# Altium schematic symbol library IntLib.SchLib: 161 symbols (part 1 of 3)
Pins are listed as number, name and electrical type; pins without a type are passive.

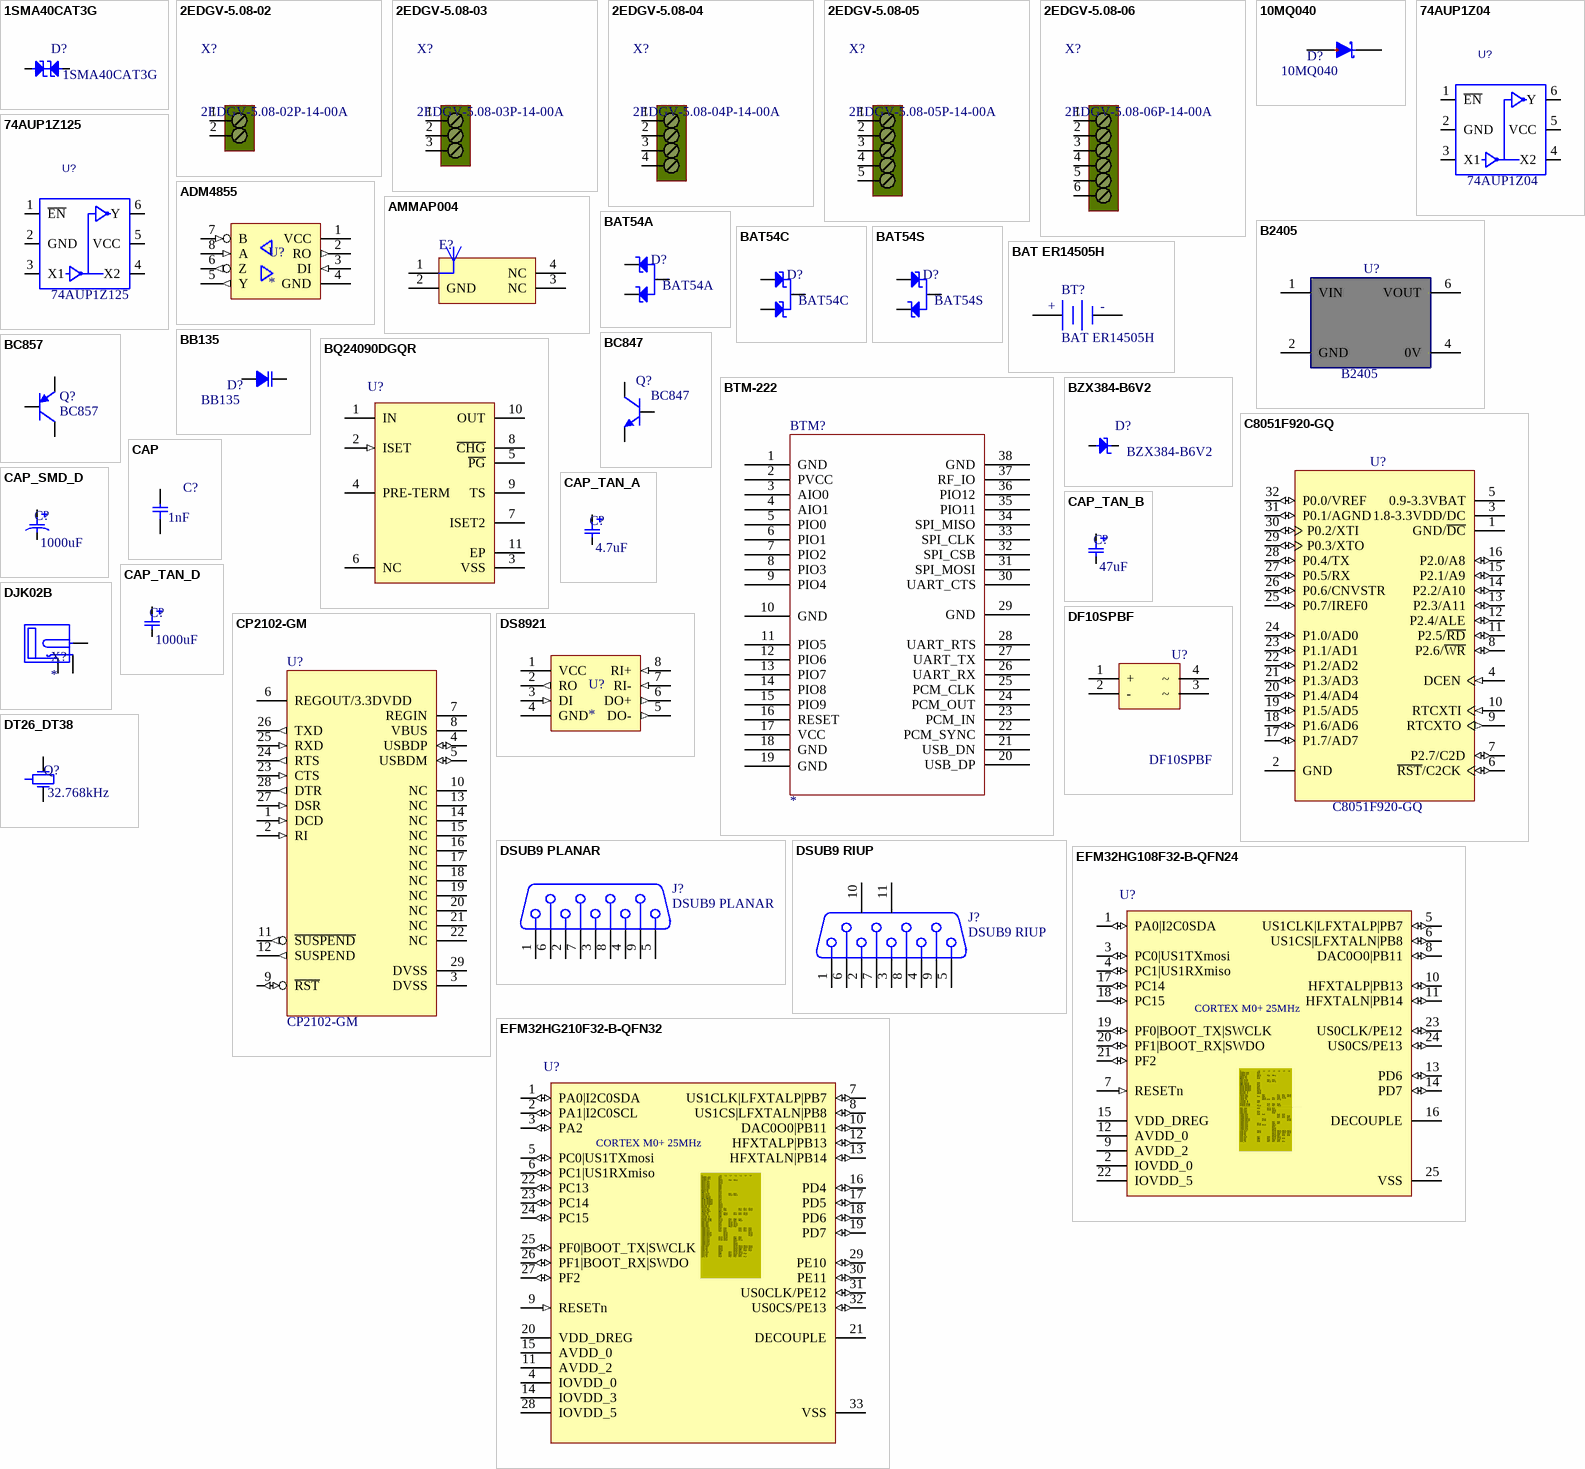
[diagram p0: symbols 1SMA40CAT3G to EFM32HG210F32-B-QFN32]

## 1SMA40CAT3G
designator D?
400 Watt Peak Power Zener  Transient Voltage  Suppressors; Published: 17-Sep-2003; LatestRevisionDate: 12-Dec-2006; LatestRevisionNote: IPC-7351 Footprint Added.; DatasheetVersion: 4-Mar-2002; PackageVersion: May-1999; PackageReference: SOT23; Publisher: Altium Limited; PackageDescription: 3-Pin SOT-23 Package 0.95 mm Pitch, 2.3 mm Lead Span; ComponentLink1Description: Manufacturer Link; ComponentLink1URL: http://www.semiconductors.philips.com/; ComponentLink2Description: Datasheet; ComponentLink2URL: http://www.semiconductors.philips.com/acrobat/datasheets/BAT54_SERIES_4.pdf
footprint SMA2 (Footprint not found)
pins: 1 K, 2 A

## 2EDGV-5.08-02
designator X?, comment 2EDGV-5.08-02P-14-00A
stereo audio 3.5mm
footprint 691311700002 (WR-TBL Series 3117 - 5.00 mm 2 pins Open Vertical PCB Header)
pins: 1, 2

## 2EDGV-5.08-03
designator X?, comment 2EDGV-5.08-03P-14-00A
stereo audio 3.5mm
footprint 691311700003 (WR-TBL Series 3117 - 5.00 mm 3 pins Open Vertical PCB Header)
pins: 1, 2, 3

## 2EDGV-5.08-04
designator X?, comment 2EDGV-5.08-04P-14-00A
stereo audio 3.5mm
footprint 691311700004 (WR-TBL Series 3117 - 5.00 mm 4 pins Open Vertical PCB Header)
pins: 1, 2, 3, 4

## 2EDGV-5.08-05
designator X?, comment 2EDGV-5.08-05P-14-00A
stereo audio 3.5mm
footprint 691311700005 (WR-TBL Series 3117 - 5.00 mm 5 pins Open Vertical PCB Header)
pins: 1, 2, 3, 4, 5

## 2EDGV-5.08-06
designator X?, comment 2EDGV-5.08-06P-14-00A
stereo audio 3.5mm
footprint 691311700006 (WR-TBL Series 3117 - 5.00 mm 6 pins Open Vertical PCB Header)
pins: 1, 2, 3, 4, 5, 6

## 10MQ040
designator D?
Schottky Rectifier; Published: 8-Jun-2000; LatestRevisionDate: 17-Jul-2002; LatestRevisionNote: Re-released for DXP Platform.; DatasheetDocument: Dec-1997; PackageReference: D-64; Publisher: Altium Limited; ComponentLink1Description: Manufacturer Link; ComponentLink1URL: http://www.irf.com/; ComponentLink2Description: Datasheet; ComponentLink2URL: http://www.irf.com/product-info/datasheets/data/10mq040n.pdf
footprint DO214AC (DO-214-AC/SMA; 2 C-Bend Leads; Body 5.3 x 2.6 mm, inc. leads (LxW))
simulation model 10MQ040 (DIODE)
signal-integrity model 10MQ040
pins: 1 A, 2 K

## 74AUP1Z04
designator U?
Value: 74AUP1Z04
footprint SOT363 (SOT-363/SC-88; 6 Leads; Body 2.2 x 2.2 mm, inc. leads (LxW max))
pins: 1 ~{EN}, 2 GND, 3 X1, 4 X2, 5 VCC, 6 Y

## 74AUP1Z125
designator U?
Value: 74AUP1Z125
footprint SOT363 (SOT-363/SC-88; 6 Leads; Body 2.2 x 2.2 mm, inc. leads (LxW max))
pins: 1 ~{EN}, 2 GND, 3 X1, 4 X2, 5 VCC, 6 Y

## ADM4855
designator U?
RS-RS-422 transciver
footprint SO8-150
pins: 1 VCC (power), 2 RO (out), 3 DI (in), 4 GND (power), 5 Y (out), 6 Z (out), 7 B (in), 8 A (in)

## AMMAP004
designator E?
Chip Antenna, GSM850, GSM900, DCS, PCS, UMTS; PCB_Layout: Complies with manufacturer's recommendation.; Published: 14-Mar-2008; DatasheetVersion: Apr-2006; PackageVersion: Apr-2006; PackageReference: ANT-2.45-CHP; Publisher: Altium Limited; PackageDescription: Chip Antenna, LTCC; 2 Leads, Body 6.5 x 2.2 mm (LxW); ComponentLink1Description: Manufacturer Link; ComponentLink1URL: http://www.antennafactor.com/; ComponentLink2Description: Datasheet; ComponentLink2URL: http://www.antennafactor.com/documents/ANT-xxx-CHP-x_Data_Guide.pdf
footprint AMMAP25 (Footprint not found)
pins: 1 FEED, 2 GND, 3 NC, 4 NC

## B2405
designator U?
2W, FIXED INPUT, ISOLATED & UNREGULATED  DUAL/SINGLE OUTPUT DC-DC CONVERTER; Published: 29-Jan-2009; DatasheetVersion: revA, Aug-2007; PackageVersion: revAW, Oct-2008; PackageReference: SOT-23-OT5; Publisher: Altium Limited; PackageDescription: 5-Lead Plastic Small Outline Transistor (OT) [SOT-23]; Code_IPC: SOT23-5; ComponentLink1Description: Manufacturer Link; ComponentLink1URL: http://www.microchip.com; ComponentLink2Description: Datasheet; ComponentLink2URL: http://ww1.microchip.com/downloads/en/DeviceDoc/22070a.pdf; ComponentLink3Description: Packaging Specification; ComponentLink3URL: http://ww1.microchip.com/downloads/en/PackagingSpec/00049AW.pdf
footprint SIP-4-DCDC (SIP-4 DC/DC)
pins: 1 VIN (power), 2 GND (power), 4 0V (power), 6 VOUT (power)

## BAT54A
designator D?
Schottky Barrier Double Diode; Published: 17-Sep-2003; LatestRevisionDate: 12-Dec-2006; LatestRevisionNote: IPC-7351 Footprint Added.; DatasheetVersion: 4-Mar-2002; PackageVersion: May-1999; PackageReference: SOT23; Publisher: Altium Limited; PackageDescription: 3-Pin SOT-23 Package 0.95 mm Pitch, 2.3 mm Lead Span; ComponentLink1Description: Manufacturer Link; ComponentLink1URL: http://www.semiconductors.philips.com/; ComponentLink2Description: Datasheet; ComponentLink2URL: http://www.semiconductors.philips.com/acrobat/datasheets/BAT54_SERIES_4.pdf
footprint SOT23-1 (SOT23, 3-Leads, Body 2.9x1.3mm, Pitch 0.95mm, Lead Span 2.5mm)
pins: 1 A1, 2 A2, 3 K

## BAT54C
designator D?
Schottky Barrier Double Diode; Published: 17-Sep-2003; LatestRevisionDate: 12-Dec-2006; LatestRevisionNote: IPC-7351 Footprint Added.; DatasheetVersion: 4-Mar-2002; PackageVersion: May-1999; PackageReference: SOT23; Publisher: Altium Limited; PackageDescription: 3-Pin SOT-23 Package 0.95 mm Pitch, 2.3 mm Lead Span; ComponentLink1Description: Manufacturer Link; ComponentLink1URL: http://www.semiconductors.philips.com/; ComponentLink2Description: Datasheet; ComponentLink2URL: http://www.semiconductors.philips.com/acrobat/datasheets/BAT54_SERIES_4.pdf
footprint SOT23-1 (SOT23, 3-Leads, Body 2.9x1.3mm, Pitch 0.95mm, Lead Span 2.5mm)
pins: 1 A1, 2 A2, 3 K

## BAT54S
designator D?
Schottky Barrier Double Diode; Published: 17-Sep-2003; LatestRevisionDate: 12-Dec-2006; LatestRevisionNote: IPC-7351 Footprint Added.; DatasheetVersion: 4-Mar-2002; PackageVersion: May-1999; PackageReference: SOT23; Publisher: Altium Limited; PackageDescription: 3-Pin SOT-23 Package 0.95 mm Pitch, 2.3 mm Lead Span; ComponentLink1Description: Manufacturer Link; ComponentLink1URL: http://www.semiconductors.philips.com/; ComponentLink2Description: Datasheet; ComponentLink2URL: http://www.semiconductors.philips.com/acrobat/datasheets/BAT54_SERIES_4.pdf
footprint SOT23-1 (SOT23, 3-Leads, Body 2.9x1.3mm, Pitch 0.95mm, Lead Span 2.5mm)
pins: 1 A1, 2 A2, 3 K

## BAT ER14505H
designator BT?
Multicell Battery; Published: 24-Mar-1999; LatestRevisionDate: 17-Jul-2002; LatestRevisionNote: Re-released for DXP Platform.; PackageReference: BAT-2; Publisher: Altium Limited
footprint ER14505H
pins: 1 +, 2 -

## BB135
designator D?
UHF variable capacitance diode; Published: 8-Jun-2000; LatestRevisionDate: 17-Jul-2002; LatestRevisionNote: Re-released for DXP Platform.; DatasheetDocument: Dec-1997; PackageReference: D-64; Publisher: Altium Limited; ComponentLink1Description: Manufacturer Link; ComponentLink1URL: http://www.irf.com/; ComponentLink2Description: Datasheet; ComponentLink2URL: http://www.irf.com/product-info/datasheets/data/10mq040n.pdf
footprint SOD323 (SOD-323; 2 Leads; Body 1.8 x 1.35 mm, (LxW))
pins: 1 K, 2 A

## BC847
designator Q?
NPN General-purpose Transistor; Published: 17-Sep-2003; LatestRevisionDate: 12-Dec-2006; LatestRevisionNote: IPC-7351 Footprint Added.; DatasheetVersion: 4-Feb-2002; PackageVersion: May-1999; PackageReference: SOT23; Publisher: Altium Limited; PackageDescription: 3-Pin SOT-23 Package 0.95 mm Pitch, 2.3 mm Lead Span; ComponentLink1Description: Manufacturer Link; ComponentLink1URL: http://www.semiconductors.philips.com/; ComponentLink2Description: Datasheet; ComponentLink2URL: http://www.semiconductors.philips.com/acrobat/datasheets/BC846_BC847_BC848_5.pdf
footprint SOT23-1 (SOT23, 3-Leads, Body 2.9x1.3mm, Pitch 0.95mm, Lead Span 2.5mm)
pins: 1 B, 2 E, 3 C

## BC857
designator Q?
PNP General-purpose Transistor; Published: 17-Sep-2003; LatestRevisionDate: 12-Dec-2006; LatestRevisionNote: IPC-7351 Footprint Added.; DatasheetVersion: 8-Apr-1999; PackageVersion: May-1999; PackageReference: SOT23; Publisher: Altium Limited; PackageDescription: 3-Pin SOT-23 Package 0.95 mm Pitch, 2.3 mm Lead Span; ComponentLink1Description: Manufacturer Link; ComponentLink1URL: http://www.semiconductors.philips.com/; ComponentLink2Description: Datasheet; ComponentLink2URL: http://www.semiconductors.philips.com/acrobat/datasheets/BC807_BC807W_BC327_5.pdf
footprint SOT23-1 (SOT23, 3-Leads, Body 2.9x1.3mm, Pitch 0.95mm, Lead Span 2.5mm)
pins: 1 B, 2 E, 3 C

## BQ24090DGQR
designator U?
1 A, Single Input, Single Cell Li-Ion Battery Charger with 10 K ohm NTC, 4.5 V, -40 to 150 degC, 10-pin MSOP-PowerPAD (DGQ), Green (RoHS & no Sb/Br); PartNumber: BQ24090DGQR; Manufacturer: Texas Instruments; Lead Acid: N; SubFamily: Battery Charge Management; Vin(Min)(V): 4.5; DatasheetVersion: SLUS968C; PackageVersion: revF, Nov-2011; PackageReference: DGQ10-1675X1445TP; PackageDescription: 10-Pin PowerPAD Plastic Small Outline 0.5 mm Pitch, Exposed Pad; Supplier 1: Digi-Key; Supplier Part Number 1: BQ24090DGQR-ND; Supplier 2: Newark; Supplier Part Number 2: 68R5440; Supplier 3: Mouser; Supplier Part Number 3: 595-BQ24090DGQR; Eco-Plan: Green (RoHS & no Sb/Br); Li-Ion: N; Li-Polymer: N; NiCd: N; NiMH: N; Over Voltage Protection: N; Mounting Technology: Surface Mount; Code_JEDEC: MO-187-BA-T; ComponentLink1Description: Datasheet; ComponentLink1URL: http://www.ti.com/general/docs/lit/getliterature.tsp?genericPartNumber=BQ24090&fileType=pdf
footprint DGQ10 (TSSOP, 10-Leads, Body 3x3mm, Pitch 0.5mm, Thermal Pad 1.88x1.57mm, IPC Low Density)
pins: 1 IN (power) "Input power, connected to external DC supply (AC adapter or USB port). Expected range of bypass capacitors 1uF to 10uF, connect from IN to VSS.", 2 ISET (in) "Programs the Fast-charge current setting. External resistor from ISET to VSS defines fast charge current value. Range is 10.8k (50mA) to 675 ohm (800mA).", 3 VSS (power) "Ground terminal", 4 PRE-TERM "Programs the Current Termination Threshold (5 to 50% of Iout which is set by ISET) and Sets the Pre- Charge Current to twice the Termination Current Level. Expected range of programming resistor is 1k to 10kohm (2k: Ipgm/10 (See Datasheet)", 5 ~{PG} (hiz) "Low (FET on) indicates the input voltage is above UVLO and the OUT (battery) voltage.", 6 NC "Do not make a connection to this pin (for internal use) - Do not route through this pin", 7 ISET2 "Programming the Input/Output Current Limit for the USB or Adaptor source: High = 500mAmax, Low = ISET, FLOAT = 100mA max.", 8 ~{CHG} (hiz) "Low (FET on) indicates charging and Open Drain (FET off) indicates no Charging or Charge complete.", 9 TS "Temperature sense pin connected to bq24090/2 -10k at 25degreesC NTC thermistor & bq24091/3 -100k at 25degreesC NTC thermistor, in the battery pack. Floating TS Pin or pulling High puts part in TTDM “Charger?Mode and disable (See Datasheet)", 10 OUT (power) "Battery Connection. System Load may be connected. Average load should not be excessive, allowing battery to charge within the 10 hour safety timer window. Expected range of bypass capacitors 1uF to 10uF.", 11 EP (power) "There is an internal electrical connection between the exposed thermal pad and the VSS pin of the device. The thermal pad must be connected to the same potential as the VSS pin on the printed circuit board. Do not use the (See Datasheet)"

## BTM-222
designator BTM?
footprint BTM-222
pins: 1 GND, 2 PVCC, 3 AIO0, 4 AIO1, 5 PIO0, 6 PIO1, 7 PIO2, 8 PIO3, 9 PIO4, 10 GND, 11 PIO5, 12 PIO6, 13 PIO7, 14 PIO8, 15 PIO9, 16 RESET, 17 VCC, 18 GND, 19 GND, 20 USB_DP, 21 USB_DN, 22 PCM_SYNC, 23 PCM_IN, 24 PCM_OUT, 25 PCM_CLK, 26 UART_RX, 27 UART_TX, 28 UART_RTS, 29 GND, 30 UART_CTS, 31 SPI_MOSI, 32 SPI_CSB, 33 SPI_CLK, 34 SPI_MISO, 35 PIO11, 36 PIO12, 37 RF_IO, 38 GND

## BZX384-B6V2
designator D?
Zener 6.2v; Published: 17-Sep-2003; LatestRevisionDate: 12-Dec-2006; LatestRevisionNote: IPC-7351 Footprint Added.; DatasheetVersion: 4-Mar-2002; PackageVersion: May-1999; PackageReference: SOT23; Publisher: Altium Limited; PackageDescription: 3-Pin SOT-23 Package 0.95 mm Pitch, 2.3 mm Lead Span; ComponentLink1Description: Manufacturer Link; ComponentLink1URL: http://www.semiconductors.philips.com/; ComponentLink2Description: Datasheet; ComponentLink2URL: http://www.semiconductors.philips.com/acrobat/datasheets/BAT54_SERIES_4.pdf
footprint SOD323
pins: 1 K, 2 A

## C8051F920-GQ
designator U?
8051 Microcontroller, 25MIPS, 32KiB Flash, 256Byte RAM + 4KiB XRAM, 24.5MHz +/-2% and 20MHz +/-10% and 40-10kHz Internal Oscillator, 4-16bit Timer, 23CH 200ksps 10bit ADC, UART, I2C, 2 SPI, CRC, RTC, PCA, 2 Comparator, LDO, DCC, 24GPIO.; Manufacture: Silicon Laboratories; Compliant: RoHS; CompliantInformationSource: Silicon Laboratries; PackageDocument: 2008-09; TempertureRange: Industrial (-40 to +85Cel); ComponentLink1Description: Manufacture Link; ComponentLink1URL: http://www.silabs.com/; ComponentLink2Description: Datasheet; ComponentLink2URL: https://www.silabs.com/Support Documents/TechnicalDocs/C8051F93x-92x.pdf; DatasheetDocument: Rev. 0.4, 2008-09; PackageReference: LQFP-32; Published: 2008-04-18; Publisher: A and A System Co., Ltd.; DigiKeyPartNumber: 336-1469-ND
footprint LQFP32 (QFP, 32-Leads, Body 7x7mm, Pitch 0.8mm, IPC High Density)
pins: 1 GND/~{DC} (power), 2 GND (power), 3 1.8-3.3VDD/DC (power), 4 DCEN (in), 5 0.9-3.3VBAT (power), 6 ~{RST}/C2CK (io), 7 P2.7/C2D (io), 8 P2.6/~{WR} (io), 9 RTCXTO (out), 10 RTCXTI (in) "Port 1.1. See Port I/O Section for a complete description. External Clock Output. This pin is the excitation driver for an external crystal or resonator, or an external clock input for CMOS, capacitor, or RC oscillator configurations. See Oscillator Sect", 11 P2.5/~{RD} (io), 12 P2.4/ALE (io), 13 P2.3/A11 (io), 14 P2.2/A10 (io), 15 P2.1/A9 (io), 16 P2.0/A8 (io), 17 P1.7/AD7 (io), 18 P1.6/AD6 (io), 19 P1.5/AD5 (io), 20 P1.4/AD4 (io), 21 P1.3/AD3 (io), 22 P1.2/AD2 (io), 23 P1.1/AD1 (io), 24 P1.0/AD0 (io), 25 P0.7/IREF0 (io), 26 P0.6/CNVSTR (io), 27 P0.5/RX (io), 28 P0.4/TX (io), 29 P0.3/XTO (io), 30 P0.2/XTI (io), 31 P0.1/AGND (io), 32 P0.0/VREF (io)

## CAP
designator C?  value 1nF  (hidden comment: CAP)
Capacitor; Manufacturer: Generic Components; Class I: Passive; Published: 8-Jun-2000; Revision: July-2002: Re-released for DXP Platform.; Publisher: Altium Limited; Class II: Capacitor; Type: *
footprint R2012_CAP (SMD CAP-0805)
footprint R1608_CAP (SMD CAP-0603)
footprint R1005_CAP (SMD CAP-0402)
pins: 1, 2
2 alternate drawings of the same symbol

## CAP_SMD_D
designator C?, comment value 1000uF  (hidden comment: CAP SMD Size D)
Revision: July-2002: Re-released for DXP Platform.; Type: *
footprint CAP_SMD_D
pins: 1, 2
2 alternate drawings of the same symbol

## CAP_TAN_A
designator C?, comment value 4.7uF  (hidden comment: CAP TAN Size A)
Revision: July-2002: Re-released for DXP Platform.; Type: *
footprint CAP_TAN_D
footprint CAP_TAN_A (Chip Capacitor, Body 3.2x2.5mm, IPC High Density)
footprint CAP_TAN_B (Chip Capacitor, Body 3.2x2.5mm, IPC High Density)
pins: 1, 2
2 alternate drawings of the same symbol

## CAP_TAN_B
designator C?, comment value 47uF  (hidden comment: CAP TAN Size B)
CAP TAN Size C; Revision: July-2002: Re-released for DXP Platform.; Type: *
footprint CAP_TAN_D
footprint CAP_TAN_A (Chip Capacitor, Body 3.2x2.5mm, IPC High Density)
footprint CAP_TAN_B (Chip Capacitor, Body 3.2x2.5mm, IPC High Density)
pins: 1, 2
2 alternate drawings of the same symbol

## CAP_TAN_D
designator C?, comment value 1000uF  (hidden comment: CAP TAN Size D)
Revision: July-2002: Re-released for DXP Platform.; Type: *
footprint CAP_TAN_D
footprint CAP_TAN_A (Chip Capacitor, Body 3.2x2.5mm, IPC High Density)
footprint CAP_TAN_B (Chip Capacitor, Body 3.2x2.5mm, IPC High Density)
pins: 1, 2
2 alternate drawings of the same symbol

## CP2102-GM
designator U?
Single Chip USB to UART Bridge, USB 2.0, 1024Bytes EEPROM.; Manufacture: Silicon Laboratories; Compliant: RoHS; CompliantInformationSource: Silicon Laboratries; PackageDocument: 2005-09; TempertureRange: Industrial (-40 to +85Cel); ComponentLink1Description: Manufacture Link; ComponentLink1URL: http://www.silabs.com/; ComponentLink2Description: Datasheet; ComponentLink2URL: https://www.silabs.com/Support Documents/TechnicalDocs/CP2102.pdf; DatasheetDocument: Rev. 1.1, 2005-09; PackageReference: QFN-28; Published: 2007-08-06; Publisher: A and A System Co., Ltd.; DigiKeyPartNumber: 336-1160-ND
footprint QFN28 (Footprint not found)
pins: 1 DCD (in) "Data Carrier Detect control input (active low)", 2 RI (in) "Ring Indicator control input (active low)", 3 DVSS (power), 4 USBDP (io) "USB Dataline Positive.", 5 USBDM (io) "USB Data Line Negative", 6 REGOUT/3.3DVDD (power) "3.0-3.6?V Power Supply Voltage Input. 3.3?V Voltage Regulator Output. See Section 9.", 7 REGIN (power) "5?V Regulator Input. This pin is the input to the on-chip voltage regulator.", 8 VBUS (power) "VBUS Sense Input. This pin should be connected to the VBUS signal of a USB network. A 5?V signal on this pin indicates a USB network connection.", 9 ~{RST} (io) "Device Reset. Open-drain output of internal POR or VDD monitor. An external source can initiate a system reset by driving this pin low for at least 15us.", 10 NC "These pins should be left unconnected or tied to VDD.", 11 ~{SUSPEND} (out) "This pin is driven low when the CP2101 enters the USB suspend state.", 12 SUSPEND (out) "This pin is driven high when the CP2101 enters the USB suspend state.", 13 NC "These pins should be left unconnected or tied to VDD.", 14 NC "These pins should be left unconnected or tied to VDD.", 15 NC "These pins should be left unconnected or tied to VDD.", 16 NC "These pins should be left unconnected or tied to VDD.", 17 NC "These pins should be left unconnected or tied to VDD.", 18 NC "These pins should be left unconnected or tied to VDD.", 19 NC "These pins should be left unconnected or tied to VDD.", 20 NC "These pins should be left unconnected or tied to VDD.", 21 NC "These pins should be left unconnected or tied to VDD.", 22 NC "These pins should be left unconnected or tied to VDD.", 23 CTS (in) "Clear To Send control input (active low)", 24 RTS (out) "Ready to Send control output (active low)", 25 RXD (in) "Asynchronous data input (UART Receive)", 26 TXD (out) "Asynchronous data output (UART Transmit)", 27 DSR (in) "Data Set Ready control input (active low)", 28 DTR (out) "Data Terminal Ready control output (active low)", 29 DVSS (power)

## DF10SPBF
designator U?
Ampere Bridge Rectifiers 1500 mA; Published: 29-Jan-2009; DatasheetVersion: revA, Aug-2007; PackageVersion: revAW, Oct-2008; PackageReference: SOT-23-OT5; Publisher: Altium Limited; PackageDescription: 5-Lead Plastic Small Outline Transistor (OT) [SOT-23]; Code_IPC: SOT23-5; ComponentLink1Description: Manufacturer Link; ComponentLink1URL: http://www.microchip.com; ComponentLink2Description: Datasheet; ComponentLink2URL: http://ww1.microchip.com/downloads/en/DeviceDoc/22070a.pdf; ComponentLink3Description: Packaging Specification; ComponentLink3URL: http://ww1.microchip.com/downloads/en/PackagingSpec/00049AW.pdf
footprint D-71 (D-71 / DB-1S Diode Bridge)
pins: 1 + (power), 2 - (power), 3 ~ (power), 4 ~ (power)

## DJK02B
designator X?
DJK02B
footprint DJK-02
pins: 1 (power), 2 (power), 3 (power)

## DS8921
designator U?
RS-422 transciver
footprint SO8-150
pins: 1 VCC (power), 2 RO (out), 3 DI (in), 4 GND (power), 5 DO- (out), 6 DO+ (out), 7 RI- (in), 8 RI+ (in)

## DSUB9 PLANAR
designator J?
Receptacle Assembly, 9 Position, Right Angle; PackageDocument: O; Positions: 9; Published: 15-Jun-2001; LatestRevisionDate: 17-Jul-2002; LatestRevisionNote: Re-released for DXP Platform.; DatasheetDocument: 1-Sep-1999; PackageReference: 788750; Publisher: Altium Limited; Orientation: Right Angle; Gender: Receptacle
footprint DSUB9_FE_PLANAR (Connector; D Subminiature; 9 Position; Right Angle; Pitch 1.385 mm)
signal-integrity model Connector
footprint DSUB9_MA_PLANAR (Connector; D Subminiature; 9 Position; Right Angle; Pitch 1.385 mm)
pins: 1, 2, 3, 4, 5, 6, 7, 8, 9

## DSUB9 RIUP
designator J?
Receptacle Assembly, 9 Position, Right Angle; PackageDocument: O; Positions: 9; Published: 15-Jun-2001; LatestRevisionDate: 17-Jul-2002; LatestRevisionNote: Re-released for DXP Platform.; DatasheetDocument: 1-Sep-1999; PackageReference: 788750; Publisher: Altium Limited; Orientation: Right Angle; Gender: Receptacle
signal-integrity model Connector
footprint DSUB9_FE_RI (Connector; D Subminiature; 9 Position; Right Angle; Pitch 1.385 mm)
footprint DSUB9_MA_RI (Connector; D Subminiature; 9 Position; Right Angle; Pitch 1.385 mm)
footprint DSUB9_FE_UP (Connector; D Subminiature; 9 Position; Right Angle; Pitch 1.385 mm)
footprint DSUB9_MA_UP (Connector; D Subminiature; 9 Position; Right Angle; Pitch 1.385 mm)
pins: 1, 2, 3, 4, 5, 6, 7, 8, 9, 10, 11

## DT26_DT38
designator Q?, comment value 32.768kHz  (hidden comment: DT26 / DT38)
Crystal Oscillator 32768; Manufacturer: Generic Components; Published: 8-Jun-2000; Revision: July-2002: Re-released for DXP Platform.; Publisher: Altium Limited; Class I: Oscillator; Class II: Crystal Oscillator
footprint DT26_DT38
pins: 1 OSC1, 2 OSC2, GND

## EFM32HG108F32-B-QFN24
designator U?
EFM32 Happy Gecko, M0 ARM Cortex CPU, 32 KB Flash, 4 KB RAM, 1.98 - 3.8 V Supply, 25 MHz Max Speed, -40 to 85 degC, 24-Pin QFN, RoHS Compliant; Generic Part Number: EFM32LG280; PartNumber: EFM32LG280F64-QFP100; ARM Cortex CPU: M3; Flash (KB): 64; GPIO: 86; LESENSE: Y; Max Speed (MHz): 48; OPAMPS: 3; RAM (KB): 32; Supply Voltage (V): 1.85 - 3.8; DatasheetVersion: Rev 1.00; PackageVersion: Rev. 98A0100QP043_03MAY2007; PackageReference: LQFP100; PackageDescription: 100-Pin Low rofile Quad Flat Package, Body 14 x 14 mm, Pitch 0.5 mm; Supplier 1: Digi-Key; Supplier Part Number 1: EFM32LG280F64-ND; Supplier 2: Mouser; Supplier Part Number 2: 904-EFM32LG280F64; Subcategory: EFM32 Leopard Gecko; Mounting Technology: Surface Mount; ComponentLink1Description: Manufacturer URL; ComponentLink1URL: http://www.energymicro.com/; ComponentLink2Description: Datasheet; ComponentLink2URL: http://cdn.energymicro.com/dl/devices/pdf/d0107_efm32lg280_datasheet.pdf; ComponentLink3Description: Package Specification; ComponentLink3URL: http://cdn.energymicro.com/dl/devices/pdf/d0006_efm32g280_datasheet.pdf
footprint QFN24 (QFN, 24-Leads, Body 5x5mm, Pitch 0.65mm, Thermal Pad 3.6 x 3.6mm, IPC Low Density)
pins: 1 PA0|I2C0SDA (io) "EBI_AD09#0/1/2, TIM0_CC0#0/1/4, LEU0_RX#4, I2C0_SDA#0, PRS_CH0#0, GPIO_EM4WU0", 2 IOVDD_0 (power) "Digital IO power supply 0.", 3 PC0|US1TXmosi (io) "DAC0_OUT0ALT#0/OPAMP_OUT0ALT, ACMP0_CH0, EBI_A23#0/1/2, TIM0_CC1#4, PCNT0_S0IN#2, US0_TX#5, US1_TX#0, I2C0_SDA#4, LES_CH0#0, PRS_CH2#0", 4 PC1|US1RXmiso (io) "DAC0_OUT0ALT#1/OPAMP_OUT0ALT, ACMP0_CH1, EBI_A24#0/1/2, TIM0_CC2#4, PCNT0_S1IN#2, US0_RX#5, US1_RX#0, I2C0_SCL#4, LES_CH1#0, PRS_CH3#0", 5 US1CLK|LFXTALP|PB7 (io) "LFXTAL_P, TIM1_CC0#3, US0_TX#4, US1_CLK#0", 6 US1CS|LFXTALN|PB8 (io) "LFXTAL_N, TIM1_CC1#3, US0_RX#4, US1_CS#0", 7 RESETn (in) "Reset input.Active low, with internal pull-up.", 8 DAC0O0|PB11 (io) "DAC0_OUT0#0/OPAMP_OUT0, TIM1_CC2#3, LETIM0_OUT0#1, I2C1_SDA#1", 9 AVDD_2 (power) "Analog power supply 1 .", 10 HFXTALP|PB13 (io) "HFXTAL_P, US0_CLK#4/5, LEU0_TX#1", 11 HFXTALN|PB14 (io) "HFXTAL_N, US0_CS#4/5, LEU0_RX#1", 12 AVDD_0 (power) "Analog power supply 0.", 13 PD6 (io) "ADC0_CH6, DAC0_P1#0/OPAMP_P1, TIM1_CC0#4, LETIM0_OUT0#0, PCNT0_S0IN#3, US1_RX#2, I2C0_SDA#1, LES_ALTEX0#0, ACMP0_O#2, ETM_TD0#0", 14 PD7 (io) "ADC0_CH7, DAC0_N1#0/OPAMP_N1, TIM1_CC1#4, LETIM0_OUT1#0, PCNT0_S1IN#3, US1_TX#2, I2C0_SCL#1, CMU_CLK0#2, LES_ALTEX1#0, ACMP1_O#2, ETM_TCLK#0", 15 VDD_DREG (power) "Power supply for on-chip voltage regulator.", 16 DECOUPLE "Decouple output for on-chip voltage regulator. An external capacitance of size CDECOUPLE is required at this pin", 17 PC14 (io) "DAC0_OUT1ALT#2/OPAMP_OUT1ALT, ACMP1_CH6, TIM0_CDTI1#1/3, TIM1_CC1#0, PCNT0_S1IN#0, US0_CS#3, U0_TX#3, LES_CH14#0", 18 PC15 (io) "DAC0_OUT1ALT#3/OPAMP_OUT1ALT, ACMP1_CH7, TIM0_CDTI2#1/3, TIM1_CC2#0, US0_CLK#3, U0_RX#3, LES_CH15#0, DBG_SWO#1", 19 PF0|BOOT_TX|SWCLK (io) "TIM0_CC0#5, LETIM0_OUT0#2, US1_CLK#2, LEU0_TX#3, I2C0_SDA#5, DBG_SWCLK#0/1/2/3", 20 PF1|BOOT_RX|SWDO (io) "TIM0_CC1#5, LETIM0_OUT1#2, US1_CS#2, LEU0_RX#3, I2C0_SCL#5, DBG_SWDIO#0/1/2/3, GPIO_EM4WU3", 21 PF2 (io) "EBI_ARDY#0/1/2, TIM0_CC2#5, LEU0_TX#4, ACMP1_O#0, DBG_SWO#0, GPIO_EM4WU4", 22 IOVDD_5 (power) "Digital IO power supply 5.", 23 US0CLK/PE12 (io) "EBI_AD04#0/1/2, TIM1_CC2#1, US0_RX#3, US0_CLK#0, I2C0_SDA#6, CMU_CLK1#2, LES_ALTEX6#0", 24 US0CS/PE13 (io) "EBI_AD05#0/1/2, US0_TX#3, US0_CS#0, I2C0_SCL#6, LES_ALTEX7#0, ACMP0_O#0, GPIO_EM4WU5", 25 VSS (power) "Ground"
text: CORTEX M0+ 25MHz; #                 L0   L1   L2   L3   L4   L5   L6 / ACMP0_CH0        PC0 / ACMP0_CH1        PC1 / ACMP0_O          PE13      PD6  PB11 / BOOT_RX          PF1 / BOOT_TX          PF0 / CMU_CLK0                   PD7  PF2 / CMU_CLK1                   PE12 PB11 / DBG_SWCLK        PF0 / DBG_SWDIO        PF1 / GPIO_EM4WU0      PA0 / GPIO_EM4WU3      PF1 / GPIO_EM4WU4      PF2 / GPIO_EM4WU5      PE13 / HFXTAL_N         PB14 / HFXTAL_P         PB13 / I2C0_SCL              PD7            PC1  PF1  PE13 / I2C0_SDA         PA0  PD6            PC0  PF0  PE12 / LEU0_RX               PB14      PF1  PA0  PC15 / LEU0_TX               PB13 PF0  PF2  PC14 / LFXTAL_N         PB8 / LFXTAL_P         PB7 / PCNT0_S0IN                 PC0  PD6  PA0 / PCNT0_S1IN       PC14      PC1  PD7  PB11 / ------------------------------------------------------------- / PRS_CH0          PA0       PC14 PF2 / PRS_CH1                    PC15 PE12 / PRS_CH2          PC0            PE13 / PRS_CH3          PC1            PA0 / TIM0_CC0         PA0  PA0            PA0  PF0 / TIM0_CC1                             PC0  PF1  PA0 / TIM0_CC2                             PC1  PF2  PF2 / TIM0_CDTI1            PC14                     PC14 / TIM0_CDTI2            PC15                     PC15 / TIM1_CC0                        PB7  PD6 / TIM1_CC1         PC14           PB8  PD7 / TIM1_CC2         PC15 PE12      PB11 / TIM2_CC0                        PF2 / TIM2_CC1                        PE12 / TIM2_CC2                        PE13 / US0_CLK          PE12           PC15 PB13 PB13 PE12 / US0_CS           PE13           PC14 PB14 PB14 PE13 / US0_RX                          PE12 PB8  PC1  PC1 / US0_TX                          PE13 PB7  PC0  PC0 / US1_CLK          PB7       PF0  PC15 PB11 / US1_CS           PB8       PF1  PC14 PC14 PC0 / US1_RX           PC1       PD6  PD6  PA0 / US1_TX           PC0       PD7  PD7  PF2  PC1 /

## EFM32HG210F32-B-QFN32
designator U?
EFM32 Happy Gecko, M0 ARM Cortex CPU, 32 KB Flash, 4 KB RAM, 1.98 - 3.8 V Supply, 25 MHz Max Speed, -40 to 85 degC, 32-Pin QFN, RoHS Compliant; Generic Part Number: EFM32LG280; PartNumber: EFM32LG280F64-QFP100; ARM Cortex CPU: M3; Flash (KB): 64; GPIO: 86; LESENSE: Y; Max Speed (MHz): 48; OPAMPS: 3; RAM (KB): 32; Supply Voltage (V): 1.85 - 3.8; DatasheetVersion: Rev 1.00; PackageVersion: Rev. 98A0100QP043_03MAY2007; PackageReference: LQFP100; PackageDescription: 100-Pin Low rofile Quad Flat Package, Body 14 x 14 mm, Pitch 0.5 mm; Supplier 1: Digi-Key; Supplier Part Number 1: EFM32LG280F64-ND; Supplier 2: Mouser; Supplier Part Number 2: 904-EFM32LG280F64; Subcategory: EFM32 Leopard Gecko; Mounting Technology: Surface Mount; ComponentLink1Description: Manufacturer URL; ComponentLink1URL: http://www.energymicro.com/; ComponentLink2Description: Datasheet; ComponentLink2URL: http://cdn.energymicro.com/dl/devices/pdf/d0107_efm32lg280_datasheet.pdf; ComponentLink3Description: Package Specification; ComponentLink3URL: http://cdn.energymicro.com/dl/devices/pdf/d0006_efm32g280_datasheet.pdf
footprint QFN32 (QFN, 32-Leads, Body 7x7 mm, Pitch 0.65mm, IPC Low Density)
pins: 1 PA0|I2C0SDA (io) "EBI_AD09#0/1/2, TIM0_CC0#0/1/4, LEU0_RX#4, I2C0_SDA#0, PRS_CH0#0, GPIO_EM4WU0", 2 PA1|I2C0SCL (io) "EBI_AD09#0/1/2, TIM0_CC0#0/1/4, LEU0_RX#4, I2C0_SDA#0, PRS_CH0#0, GPIO_EM4WU0", 3 PA2 (io) "EBI_AD09#0/1/2, TIM0_CC0#0/1/4, LEU0_RX#4, I2C0_SDA#0, PRS_CH0#0, GPIO_EM4WU0", 4 IOVDD_0 (power) "Digital IO power supply 0.", 5 PC0|US1TXmosi (io) "DAC0_OUT0ALT#0/OPAMP_OUT0ALT, ACMP0_CH0, EBI_A23#0/1/2, TIM0_CC1#4, PCNT0_S0IN#2, US0_TX#5, US1_TX#0, I2C0_SDA#4, LES_CH0#0, PRS_CH2#0", 6 PC1|US1RXmiso (io) "DAC0_OUT0ALT#1/OPAMP_OUT0ALT, ACMP0_CH1, EBI_A24#0/1/2, TIM0_CC2#4, PCNT0_S1IN#2, US0_RX#5, US1_RX#0, I2C0_SCL#4, LES_CH1#0, PRS_CH3#0", 7 US1CLK|LFXTALP|PB7 (io) "LFXTAL_P, TIM1_CC0#3, US0_TX#4, US1_CLK#0", 8 US1CS|LFXTALN|PB8 (io) "LFXTAL_N, TIM1_CC1#3, US0_RX#4, US1_CS#0", 9 RESETn (in) "Reset input.Active low, with internal pull-up.", 10 DAC0O0|PB11 (io) "DAC0_OUT0#0/OPAMP_OUT0, TIM1_CC2#3, LETIM0_OUT0#1, I2C1_SDA#1", 11 AVDD_2 (power) "Analog power supply 1 .", 12 HFXTALP|PB13 (io) "HFXTAL_P, US0_CLK#4/5, LEU0_TX#1", 13 HFXTALN|PB14 (io) "HFXTAL_N, US0_CS#4/5, LEU0_RX#1", 14 IOVDD_3 (power) "Digital IO power supply 5.", 15 AVDD_0 (power) "Analog power supply 0.", 16 PD4 (io) "ADC0_CH6, DAC0_P1#0/OPAMP_P1, TIM1_CC0#4, LETIM0_OUT0#0, PCNT0_S0IN#3, US1_RX#2, I2C0_SDA#1, LES_ALTEX0#0, ACMP0_O#2, ETM_TD0#0", 17 PD5 (io) "ADC0_CH6, DAC0_P1#0/OPAMP_P1, TIM1_CC0#4, LETIM0_OUT0#0, PCNT0_S0IN#3, US1_RX#2, I2C0_SDA#1, LES_ALTEX0#0, ACMP0_O#2, ETM_TD0#0", 18 PD6 (io) "ADC0_CH6, DAC0_P1#0/OPAMP_P1, TIM1_CC0#4, LETIM0_OUT0#0, PCNT0_S0IN#3, US1_RX#2, I2C0_SDA#1, LES_ALTEX0#0, ACMP0_O#2, ETM_TD0#0", 19 PD7 (io) "ADC0_CH6, DAC0_P1#0/OPAMP_P1, TIM1_CC0#4, LETIM0_OUT0#0, PCNT0_S0IN#3, US1_RX#2, I2C0_SDA#1, LES_ALTEX0#0, ACMP0_O#2, ETM_TD0#0", 20 VDD_DREG (power) "Power supply for on-chip voltage regulator.", 21 DECOUPLE "Decouple output for on-chip voltage regulator. An external capacitance of size CDECOUPLE is required at this pin", 22 PC13 (io) "DAC0_OUT1ALT#2/OPAMP_OUT1ALT, ACMP1_CH6, TIM0_CDTI1#1/3, TIM1_CC1#0, PCNT0_S1IN#0, US0_CS#3, U0_TX#3, LES_CH14#0", 23 PC14 (io) "DAC0_OUT1ALT#2/OPAMP_OUT1ALT, ACMP1_CH6, TIM0_CDTI1#1/3, TIM1_CC1#0, PCNT0_S1IN#0, US0_CS#3, U0_TX#3, LES_CH14#0", 24 PC15 (io) "DAC0_OUT1ALT#2/OPAMP_OUT1ALT, ACMP1_CH6, TIM0_CDTI1#1/3, TIM1_CC1#0, PCNT0_S1IN#0, US0_CS#3, U0_TX#3, LES_CH14#0", 25 PF0|BOOT_TX|SWCLK (io) "TIM0_CC0#5, LETIM0_OUT0#2, US1_CLK#2, LEU0_TX#3, I2C0_SDA#5, DBG_SWCLK#0/1/2/3", 26 PF1|BOOT_RX|SWDO (io) "TIM0_CC1#5, LETIM0_OUT1#2, US1_CS#2, LEU0_RX#3, I2C0_SCL#5, DBG_SWDIO#0/1/2/3, GPIO_EM4WU3", 27 PF2 (io) "EBI_ARDY#0/1/2, TIM0_CC2#5, LEU0_TX#4, ACMP1_O#0, DBG_SWO#0, GPIO_EM4WU4", 28 IOVDD_5 (power) "Digital IO power supply 5.", 29 PE10 (io) "EBI_AD04#0/1/2, TIM1_CC2#1, US0_RX#3, US0_CLK#0, I2C0_SDA#6, CMU_CLK1#2, LES_ALTEX6#0", 30 PE11 (io) "EBI_AD04#0/1/2, TIM1_CC2#1, US0_RX#3, US0_CLK#0, I2C0_SDA#6, CMU_CLK1#2, LES_ALTEX6#0", 31 US0CLK/PE12 (io) "EBI_AD04#0/1/2, TIM1_CC2#1, US0_RX#3, US0_CLK#0, I2C0_SDA#6, CMU_CLK1#2, LES_ALTEX6#0", 32 US0CS/PE13 (io) "EBI_AD05#0/1/2, US0_TX#3, US0_CS#0, I2C0_SCL#6, LES_ALTEX7#0, ACMP0_O#0, GPIO_EM4WU5", 33 VSS (power) "Ground"
text: CORTEX M0+ 25MHz; #                 L0   L1   L2   L3   L4   L5   L6 / ACMP0_CH0        PC0 / ACMP0_CH1        PC1 / ACMP0_O          PE13      PD6  PB11 / ADC0_CH0         PE12 / ADC0_CH1         PE13 / ADC0_CH4         PD4 / ADC0_CH5         PD5 / ADC0_CH6         PD6 / ADC0_CH7         PD7 / BOOT_RX          PF1 / BOOT_TX          PF0 / CMU_CLK0         PA2       PD7  PF2 / CMU_CLK1         PA1       PE12 PB11 / DBG_SWCLK        PF0 / DBG_SWDIO        PF1 / GPIO_EM4WU0      PA0 / GPIO_EM4WU3      PF1 / GPIO_EM4WU4      PF2 / GPIO_EM4WU5      PE13 / HFXTAL_N         PB14 / HFXTAL_P         PB13 / I2C0_SCL         PA1  PD7            PC1  PF1  PE13 / I2C0_SDA         PA0  PD6            PC0  PF0  PE12 / IDAC0_OUT        PB11 / LEU0_RX          PD5  PB14      PF1  PA0  PC15 / LEU0_TX          PD4  PB13      PF0  PF2  PC14 / LFXTAL_N         PB8 / LFXTAL_P         PB7 / PCNT0_S0IN       PC13      PC0  PD6  PA0 / PCNT0_S1IN       PC14      PC1  PD7  PB11 / PRS_CH0          PA0       PC14 PF2 / PRS_CH1          PA1       PC15 PE12 / PRS_CH2          PC0       PE10 PE13 / PRS_CH3          PC1       PE11 PA0 / TIM0_CC0         PA0  PA0            PA0  PF0  PA1 / TIM0_CC1         PA1  PA1            PC0  PF1  PA0 / TIM0_CC2         PA2  PA2            PC1  PF2  PF2 / TIM0_CDTI0            PC13                     PC13 / TIM0_CDTI1            PC14                     PC14 / TIM0_CDTI2            PC15                     PC15 / TIM1_CC0         PC13 PE10      PB7  PD6 / TIM1_CC1         PC14 PE11      PB8  PD7 / TIM1_CC2         PC15 PE12      PB11 PC13 / TIM2_CC0                        PF2 / TIM2_CC1                        PE12 / TIM2_CC2                        PE13 / US0_CLK          PE12           PC15 PB13 PB13 PE12 / US0_CS           PE13           PC14 PB14 PB14 PE13 / US0_RX           PE11           PE12 PB8  PC1  PC1 / US0_TX           PE10           PE13 PB7  PC0  PC0 / US1_CLK          PB7       PF0  PC15 PB11 / US1_CS           PB8       PF1  PC14 PC14 PC0 / US1_RX           PC1       PD6  PD6  PA0 / US1_TX           PC0       PD7  PD7  PF2  PC1 /

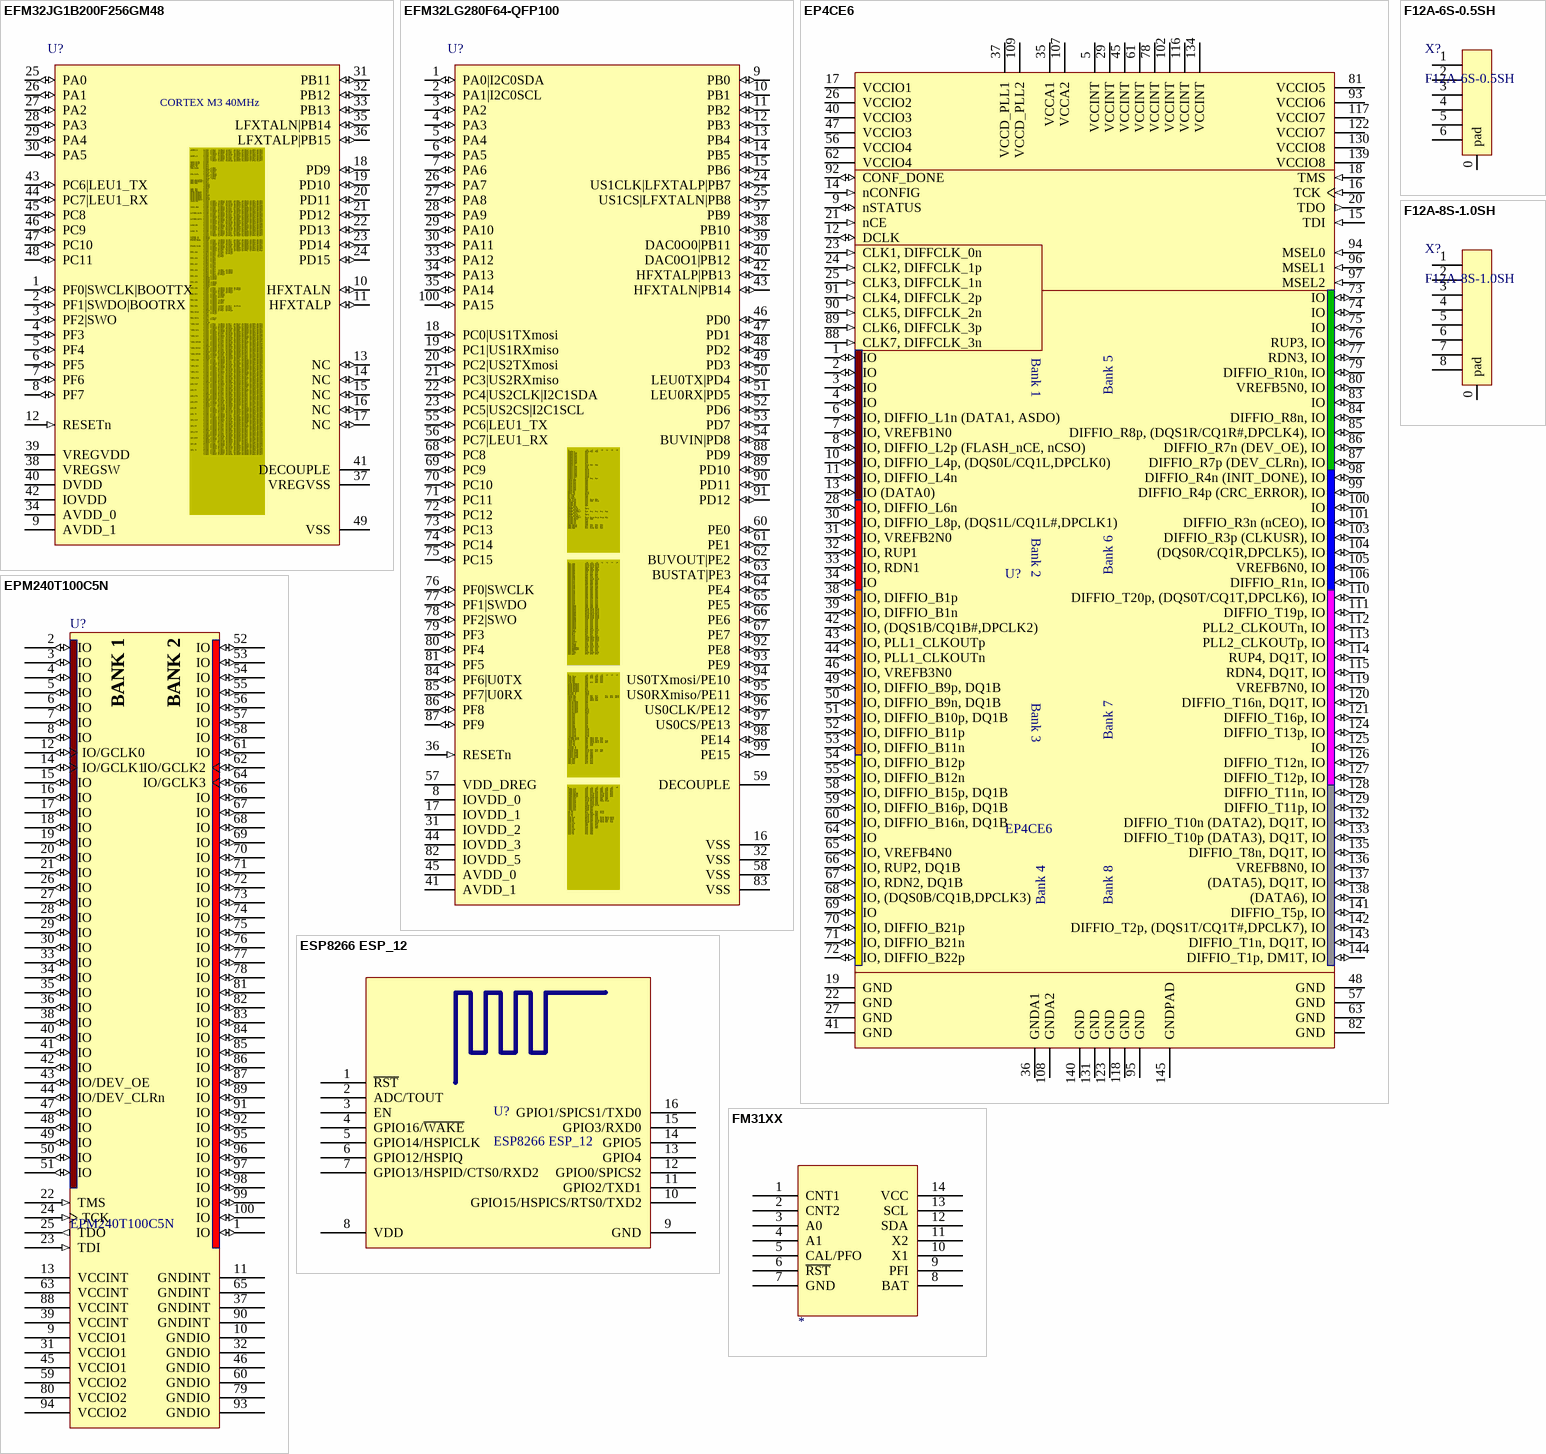
[diagram p1: symbols EFM32JG1B200F256GM48 to FM31XX]

## EFM32JG1B200F256GM48
designator U?
EFM32 Jade Gecko, M3 ARM Cortex CPU, 256 KB Flash, 32 KB RAM, 1.85 - 3.8 V Supply, 48 MHz Max Speed, -40 to 85 degC, 100-Pin LQFP, RoHS Compliant; Generic Part Number: EFM32LG280; PartNumber: EFM32LG280F64-QFP100; Flash (KB): 64; GPIO: 86; LESENSE: Y; Max Speed (MHz): 48; OPAMPS: 3; RAM (KB): 32; DatasheetVersion: Rev 1.00; PackageVersion: Rev. 98A0100QP043_03MAY2007; PackageReference: LQFP100; PackageDescription: 100-Pin Low rofile Quad Flat Package, Body 14 x 14 mm, Pitch 0.5 mm; Supplier 1: Digi-Key; Supplier Part Number 1: EFM32LG280F64-ND; Supplier 2: Mouser; Supplier Part Number 2: 904-EFM32LG280F64; ARM Cortex CPU: M3; Subcategory: EFM32 Leopard Gecko; Supply Voltage (V): 1.85 - 3.8; Mounting Technology: Surface Mount; ComponentLink1Description: Manufacturer URL; ComponentLink1URL: http://www.energymicro.com/; ComponentLink2Description: Datasheet; ComponentLink2URL: http://cdn.energymicro.com/dl/devices/pdf/d0107_efm32lg280_datasheet.pdf; ComponentLink3Description: Package Specification; ComponentLink3URL: http://cdn.energymicro.com/dl/devices/pdf/d0006_efm32g280_datasheet.pdf
footprint QFN48 (QFN, 48-Leads, Body 7x7mm, Pitch 0.5mm, IPC Low Density)
pins: 1 PF0|SWCLK|BOOTTX (io) "TIM0_CC0#5, LETIM0_OUT0#2, US1_CLK#2, LEU0_TX#3, I2C0_SDA#5, DBG_SWCLK#0/1/2/3", 2 PF1|SWDO|BOOTRX (io) "TIM0_CC1#5, LETIM0_OUT1#2, US1_CS#2, LEU0_RX#3, I2C0_SCL#5, DBG_SWDIO#0/1/2/3, GPIO_EM4WU3", 3 PF2|SWO (io) "EBI_ARDY#0/1/2, TIM0_CC2#5, LEU0_TX#4, ACMP1_O#0, DBG_SWO#0, GPIO_EM4WU4", 4 PF3 (io) "EBI_ALE#0, TIM0_CDTI0#2/5, PRS_CH0#1, ETM_TD3#1", 5 PF4 (io) "EBI_WEn#0/2, TIM0_CDTI1#2/5, PRS_CH1#1", 6 PF5 (io) "EBI_REn#0/2, TIM0_CDTI2#2/5, PRS_CH2#1", 7 PF6 (io) "EBI_BL0#0/1/2, TIM0_CC0#2, U0_TX#0", 8 PF7 (io) "EBI_BL1#0/1/2, TIM0_CC1#2, U0_TX#0", 9 AVDD_1 (power) "Analog power supply 1 .", 10 HFXTALN (io) "HFXTAL_N, US0_CS#4/5, LEU0_RX#1", 11 HFXTALP (io) "HFXTAL_P, US0_CLK#4/5, LEU0_TX#1", 12 RESETn (in) "Reset input.Active low, with internal pull-up.", 13 NC (io) "HFXTAL_P, US0_CLK#4/5, LEU0_TX#1", 14 NC (io) "HFXTAL_P, US0_CLK#4/5, LEU0_TX#1", 15 NC (io) "HFXTAL_P, US0_CLK#4/5, LEU0_TX#1", 16 NC (io) "HFXTAL_P, US0_CLK#4/5, LEU0_TX#1", 17 NC (io) "HFXTAL_P, US0_CLK#4/5, LEU0_TX#1", 18 PD9 (io) "EBI_CS0#0/1/2", 19 PD10 (io) "EBI_CS1#0/1/2", 20 PD11 (io) "EBI_CS2#0/1/2", 21 PD12 (io) "EBI_CS3#0/1/2", 22 PD13 (io) "EBI_CS3#0/1/2", 23 PD14 (io) "EBI_CS3#0/1/2", 24 PD15 (io) "EBI_CS3#0/1/2", 25 PA0 (io) "EBI_AD09#0/1/2, TIM0_CC0#0/1/4, LEU0_RX#4, I2C0_SDA#0, PRS_CH0#0, GPIO_EM4WU0", 26 PA1 (io) "EBI_AD10#0/1/2, TIM0_CC1#0/1, I2C0_SCL#0, CMU_CLK1#0, PRS_CH1#0", 27 PA2 (io) "EBI_AD11#0/1/2, TIM0_CC2#0/1, CMU_CLK0#0, ETM_TD0#3", 28 PA3 (io) "EBI_AD12#0/1/2, TIM0_CDTI0#0, U0_TX#2, LES_ALTEX2#0, ETM_TD1#3", 29 PA4 (io) "EBI_AD13#0/1/2, TIM0_CDTI1#0, U0_RX#2, LES_ALTEX3#0, ETM_TD2#3", 30 PA5 (io) "EBI_AD14#0/1/2, TIM0_CDTI2#0, LEU1_TX#1, LES_ALTEX4#0, ETM_TD3#3", 31 PB11 (io) "DAC0_OUT0#0/OPAMP_OUT0, TIM1_CC2#3, LETIM0_OUT0#1, I2C1_SDA#1", 32 PB12 (io) "DAC0_OUT1#0/OPAMP_OUT1, LETIM0_OUT1#1, I2C1_SCL#1", 33 PB13 (io) "EBI_A04#0/1/2, U1_RX#2", 34 AVDD_0 (power) "Analog power supply 0.", 35 LFXTALN|PB14 (io) "EBI_A04#0/1/2, U1_RX#2", 36 LFXTALP|PB15 (io) "EBI_A04#0/1/2, U1_RX#2", 37 VREGVSS (power) "Power supply for on-chip voltage regulator.", 38 VREGSW (power) "Power supply for on-chip voltage regulator.", 39 VREGVDD (power) "Power supply for on-chip voltage regulator.", 40 DVDD (power) "Digital IO power supply 0.", 41 DECOUPLE "Decouple output for on-chip voltage regulator. An external capacitance of size CDECOUPLE is required at this pin", 42 IOVDD (power) "Digital IO power supply 0.", 43 PC6|LEU1_TX (io) "ACMP0_CH6, EBI_A05#0/1/2, LEU1_TX#0, I2C0_SDA#2, LES_CH6#0, ETM_TCLK#2", 44 PC7|LEU1_RX (io) "ACMP0_CH7, EBI_A06#0/1/2, LEU1_RX#0, I2C0_SCL#2, LES_CH7#0, ETM_TD0#2", 45 PC8 (io) "ACMP1_CH0, EBI_A15#0/1/2, TIM2_CC0#2, US0_CS#2, LES_CH8#0", 46 PC9 (io) "ACMP1_CH1, EBI_A09#1/2, TIM2_CC1#2, US0_CLK#2, LES_CH9#0, GPIO_EM4WU2", 47 PC10 (io) "ACMP1_CH2, EBI_A10#1/2, TIM2_CC2#2, US0_RX#2, LES_CH10#0", 48 PC11 (io) "ACMP1_CH3, EBI_ALE#1/2, US0_TX#2, LES_CH11#0", 49 VSS (power) "Ground"
text: CORTEX M3 40MHz; ACMP0_O      0:PA0  4:PA4   8:PB13 12:PC7  16:PC11 20:PD12 24:PF0 28:PF4 / 1:PA1  5:PA5   9:PB14 13:PC8  17:PD9  21:PD13 25:PF1 29:PF5 / 2:PA2  6:PB11 10:PB15 14:PC9  18:PD10 22:PD14 26:PF2 30:PF6 / 3:PA3  7:PB12 11:PC6  15:PC10 19:PD11 23:PD15 27:PF3 31:PF7 / ACMP1_O      0:PA0  4:PA4   8:PB13 12:PC7  16:PC11 20:PD12 24:PF0 28:PF4 / 1:PA1  5:PA5   9:PB14 13:PC8  17:PD9  21:PD13 25:PF1 29:PF5 / 2:PA2  6:PB11 10:PB15 14:PC9  18:PD10 22:PD14 26:PF2 30:PF6 / 3:PA3  7:PB12 11:PC6  15:PC10 19:PD11 23:PD15 27:PF3 31:PF7 / ADC0_EXTN    0:PA0 / ADC0_EXTP    0:PA1 / BOOT_RX      0:PF1 / BOOT_TX      0:PF0 / CMU_CLK0     0:PA1  4:PD9 / 1:PB15 5:PD14 / 2:PC6  6:PF2 / 3:PC11 7:PF7 / CMU_CLK1     0:PA0  4:PD10 / 1:PB14 5:PD15 / 2:PC7  6:PF3 / 3:PC10 7:PF6 / DBG_SWCLKTCK 0:PF0 / DBG_SWDIOTMS 0:PF1 / DBG_SWO      0:PF2 / 1:PB13 / 2:PD15 / 3:PC11 / DBG_TDI      0:PF3 / DBG_TDO      0:PF2 / GPIO_EM4WU0  0:PF2 / GPIO_EM4WU1  0:PF7 / GPIO_EM4WU4  0:PD14 / GPIO_EM4WU8  0:PA3 / GPIO_EM4WU9  0:PB13 / GPIO_EM4WU12 0:PC10 / I2C0_SCL     0:PA1  4:PA5   8:PB14 12:PC8  16:PD9  20:PD13 24:PF1 28:PF5 / 1:PA2  5:PB11  9:PB15 13:PC9  17:PD10 21:PD14 25:PF2 29:PF6 / 2:PA3  6:PB12 10:PC6  14:PC10 18:PD11 22:PD15 26:PF3 30:PF7 / 3:PA4  7:PB13 11:PC7  15:PC11 19:PD12 23:PF0  27:PF4 31:PA0 / I2C0_SDA     0:PA0  4:PA4   8:PB13 12:PC7  16:PC11 20:PD12 24:PF0 28:PF4 / 1:PA1  5:PA5   9:PB14 13:PC8  17:PD9  21:PD13 25:PF1 29:PF5 / 2:PA2  6:PB11 10:PB15 14:PC9  18:PD10 22:PD14 26:PF2 30:PF6 / 3:PA3  7:PB12 11:PC6  15:PC10 19:PD11 23:PD15 27:PF3 31:PF7 / LETIM0_OUT0  0:PA0  4:PA4   8:PB13 12:PC7  16:PC11 20:PD12 24:PF0 28:PF4 / 1:PA1  5:PA5   9:PB14 13:PC8  17:PD9  21:PD13 25:PF1 29:PF5 / 2:PA2  6:PB11 10:PB15 14:PC9  18:PD10 22:PD14 26:PF2 30:PF6 / 3:PA3  7:PB12 11:PC6  15:PC10 19:PD11 23:PD15 27:PF3 31:PF7 / LETIM0_OUT1  0:PA1  4:PA5   8:PB14 12:PC8  16:PD9  20:PD13 24:PF1 28:PF5 / 1:PA2  5:PB11  9:PB15 13:PC9  17:PD10 21:PD14 25:PF2 29:PF6 / 2:PA3  6:PB12 10:PC6  14:PC10 18:PD11 22:PD15 26:PF3 30:PF7 / 3:PA4  7:PB13 11:PC7  15:PC11 19:PD12 23:PF0  27:PF4 31:PA0 / LEU0_RX      0:PA1  4:PA5   8:PB14 12:PC8  16:PD9  20:PD13 24:PF1 28:PF5 / 1:PA2  5:PB11  9:PB15 13:PC9  17:PD10 21:PD14 25:PF2 29:PF6 / 2:PA3  6:PB12 10:PC6  14:PC10 18:PD11 22:PD15 26:PF3 30:PF7 / 3:PA4  7:PB13 11:PC7  15:PC11 19:PD12 23:PF0  27:PF4 31:PA0 / LEU0_TX      0:PA0  4:PA4   8:PB13 12:PC7  16:PC11 20:PD12 24:PF0 28:PF4 / 1:PA1  5:PA5   9:PB14 13:PC8  17:PD9  21:PD13 25:PF1 29:PF5 / 2:PA2  6:PB11 10:PB15 14:PC9  18:PD10 22:PD14 26:PF2 30:PF6 / 3:PA3  7:PB12 11:PC6  15:PC10 19:PD11 23:PD15 27:PF3 31:PF7 / LFXTAL_N     0:PB14 / LFXTAL_P     0:PB15 / PCNT0_S0IN   0:PA0  4:PA4   8:PB13 12:PC7  16:PC11 20:PD12 24:PF0 28:PF4 / 1:PA1  5:PA5   9:PB14 13:PC8  17:PD9  21:PD13 25:PF1 29:PF5 / 2:PA2  6:PB11 10:PB15 14:PC9  18:PD10 22:PD14 26:PF2 30:PF6 / 3:PA3  7:PB12 11:PC6  15:PC10 19:PD11 23:PD15 27:PF3 31:PF7 / PCNT0_S1IN   0:PA1  4:PA5   8:PB14 12:PC8  16:PD9  20:PD13 24:PF1 28:PF5 / 1:PA2  5:PB11  9:PB15 13:PC9  17:PD10 21:PD14 25:PF2 29:PF6 / 2:PA3  6:PB12 10:PC6  14:PC10 18:PD11 22:PD15 26:PF3 30:PF7 / 3:PA4  7:PB13 11:PC7  15:PC11 19:PD12 23:PF0  27:PF4 31:PA0 / PRS_CH0      0:PF0  4:PF4   8:PC6  12:PC10 / 1:PF1  5:PF5   9:PC7  13:PC11 / 2:PF2  6:PF6  10:PC8 / 3:PF3  7:PF7  11:PC9 / PRS_CH1      0:PF1  4:PF5 / 1:PF2  5:PF6 / 2:PF3  6:PF7 / 3:PF4  7:PF0 / PRS_CH2      0:PF2  4:PF6 / 1:PF3  5:PF7 / 2:PF4  6:PF0 / 3:PF5  7:PF1 / PRS_CH3      0:PF3  4:PF7   8:PD9  12:PD13 / 1:PF4  5:PF0   9:PD10 13:PD14 / 2:PF5  6:PF1  10:PD11 14:PD15 / 3:PF6  7:PF2  11:PD12 / PRS_CH4      0:PD9  4:PD13 / 1:PD10 5:PD14 / 2:PD11 6:PD15 / 3:PD12 / PRS_CH5      0:PD10 4:PD14 / 1:PD11 5:PD15 / 2:PD12 6:PD9 / 3:PD13 / PRS_CH6      0:PA0  4:PA4   8:PB13 12:PD10 16:PD14 / 1:PA1  5:PA5   9:PB14 13:PD11 17:PD15 / 2:PA2  6:PB11 10:PB15 14:PD12 / 3:PA3  7:PB12 11:PD9  15:PD13 / PRS_CH7      0:PA1  4:PA5   8:PB14 / 1:PA2  5:PB11  9:PB15 / 2:PA3  6:PB12 10:PA0 / 3:PA4  7:PB13 / PRS_CH8      0:PA2  4:PB11  8:PB15 / 1:PA3  5:PB12  9:PA0 / 2:PA4  6:PB13 10:PA1 / 3:PA5  7:PB14 / PRS_CH9      0:PA3  4:PB12  8:PA0  12:PC7  16:PC11 / 1:PA4  5:PB13  9:PA1  13:PC8 / 2:PA5  6:PB14 10:PA2  14:PC9 / 3:PB11 7:PB15 11:PC6  15:PC10 / PRS_CH10     0:PC6  4:PC10 / 1:PC7  5:PC11 / 2:PC8 / 3:PC9 / PRS_CH11     0:PC7  4:PC11 / 1:PC8  5:PC6 / 2:PC9 / 3:PC10 / TIM0_CC0     0:PA0  4:PA4   8:PB13 12:PC7  16:PC11 20:PD12 24:PF0 28:PF4 / 1:PA1  5:PA5   9:PB14 13:PC8  17:PD9  21:PD13 25:PF1 29:PF5 / 2:PA2  6:PB11 10:PB15 14:PC9  18:PD10 22:PD14 26:PF2 30:PF6 / 3:PA3  7:PB12 11:PC6  15:PC10 19:PD11 23:PD15 27:PF3 31:PF7 / TIM0_CC1     0:PA1  4:PA5   8:PB14 12:PC8  16:PD9  20:PD13 24:PF1 28:PF5 / 1:PA2  5:PB11  9:PB15 13:PC9  17:PD10 21:PD14 25:PF2 29:PF6 / 2:PA3  6:PB12 10:PC6  14:PC10 18:PD11 22:PD15 26:PF3 30:PF7 / 3:PA4  7:PB13 11:PC7  15:PC11 19:PD12 23:PF0  27:PF4 31:PA0 / TIM0_CC2     0:PA2  4:PB11  8:PB15 12:PC9  16:PD10 20:PD14 24:PF2 28:PF6 / 1:PA3  5:PB12  9:PC6  13:PC10 17:PD11 21:PD15 25:PF3 29:PF7 / 2:PA4  6:PB13 10:PC7  14:PC11 18:PD12 22:PF0  26:PF4 30:PA0 / 3:PA5  7:PB14 11:PC8  15:PD9  19:PD13 23:PF1  27:PF5 31:PA1 / TIM0_CDTI0   0:PA3  4:PB12  8:PC6  12:PC10 16:PD11 20:PD15 24:PF3 28:PF7 / 1:PA4  5:PB13  9:PC7  13:PC11 17:PD12 21:PF0  25:PF4 29:PA0 / 2:PA5  6:PB14 10:PC8  14:PD9  18:PD13 22:PF1  26:PF5 30:PA1 / 3:PB11 7:PB15 11:PC9  15:PD10 19:PD14 23:PF2  27:PF6 31:PA2 / TIM0_CDTI1   0:PA4  4:PB13  8:PC7  12:PC11 16:PD12 20:PF0  24:PF4 28:PA0 / 1:PA5  5:PB14  9:PC8  13:PD9  17:PD13 21:PF1  25:PF5 29:PA1 / 2:PB11 6:PB15 10:PC9  14:PD10 18:PD14 22:PF2  26:PF6 30:PA2 / 3:PB12 7:PC6  11:PC10 15:PD11 19:PD15 23:PF3  27:PF7 31:PA3 / TIM0_CDTI2   0:PA5  4:PB14  8:PC8  12:PD9  16:PD13 20:PF1  24:PF5 28:PA1 / 1:PB11 5:PB15  9:PC9  13:PD10 17:PD14 21:PF2  25:PF6 29:PA2 / 2:PB12 6:PC6  10:PC10 14:PD11 18:PD15 22:PF3  26:PF7 30:PA3 / 3:PB13 7:PC7  11:PC11 15:PD12 19:PF0  23:PF4  27:PA0 31:PA4 / TIM1_CC0     0:PA0  4:PA4   8:PB13 12:PC7  16:PC11 20:PD12 24:PF0 28:PF4 / 1:PA1  5:PA5   9:PB14 13:PC8  17:PD9  21:PD13 25:PF1 29:PF5 / 2:PA2  6:PB11 10:PB15 14:PC9  18:PD10 22:PD14 26:PF2 30:PF6 / 3:PA3  7:PB12 11:PC6  15:PC10 19:PD11 23:PD15 27:PF3 31:PF7 / TIM1_CC1     0:PA1  4:PA5   8:PB14 12:PC8  16:PD9  20:PD13 24:PF1 28:PF5 / 1:PA2  5:PB11  9:PB15 13:PC9  17:PD10 21:PD14 25:PF2 29:PF6 / 2:PA3  6:PB12 10:PC6  14:PC10 18:PD11 22:PD15 26:PF3 30:PF7 / 3:PA4  7:PB13 11:PC7  15:PC11 19:PD12 23:PF0  27:PF4 31:PA0 / TIM1_CC2     0:PA2  4:PB11  8:PB15 12:PC9  16:PD10 20:PD14 24:PF2 28:PF6 / 1:PA3  5:PB12  9:PC6  13:PC10 17:PD11 21:PD15 25:PF3 29:PF7 / 2:PA4  6:PB13 10:PC7  14:PC11 18:PD12 22:PF0  26:PF4 30:PA0 / 3:PA5  7:PB14 11:PC8  15:PD9  19:PD13 23:PF1  27:PF5 31:PA1 / TIM1_CC3     0:PA3  4:PB12  8:PC6  12:PC10 16:PD11 20:PD15 24:PF3 28:PF7 / 1:PA4  5:PB13  9:PC7  13:PC11 17:PD12 21:PF0  25:PF4 29:PA0 / 2:PA5  6:PB14 10:PC8  14:PD9  18:PD13 22:PF1  26:PF5 30:PA1 / 3:PB11 7:PB15 11:PC9  15:PD10 19:PD14 23:PF2  27:PF6 31:PA2 / US0_CLK      0:PA2  4:PB11  8:PB15 12:PC9  16:PD10 20:PD14 24:PF2 28:PF6 / 1:PA3  5:PB12  9:PC6  13:PC10 17:PD11 21:PD15 25:PF3 29:PF7 / 2:PA4  6:PB13 10:PC7  14:PC11 18:PD12 22:PF0  26:PF4 30:PA0 / 3:PA5  7:PB14 11:PC8  15:PD9  19:PD13 23:PF1  27:PF5 31:PA1 / US0_CS       0:PA3  4:PB12  8:PC6  12:PC10 16:PD11 20:PD15 24:PF3 28:PF7 / 1:PA4  5:PB13  9:PC7  13:PC11 17:PD12 21:PF0  25:PF4 29:PA0 / 2:PA5  6:PB14 10:PC8  14:PD9  18:PD13 22:PF1  26:PF5 30:PA1 / 3:PB11 7:PB15 11:PC9  15:PD10 19:PD14 23:PF2  27:PF6 31:PA2 / US0_CTS      0:PA4  4:PB13  8:PC7  12:PC11 16:PD12 20:PF0  24:PF4 28:PA0 / 1:PA5  5:PB14  9:PC8  13:PD9  17:PD13 21:PF1  25:PF5 29:PA1 / 2:PB11 6:PB15 10:PC9  14:PD10 18:PD14 22:PF2  26:PF6 30:PA2 / 3:PB12 7:PC6  11:PC10 15:PD11 19:PD15 23:PF3  27:PF7 31:PA3 / US0_RTS      0:PA5  4:PB14  8:PC8  12:PD9  16:PD13 20:PF1  24:PF5 28:PA1 / 1:PB11 5:PB15  9:PC9  13:PD10 17:PD14 21:PF2  25:PF6 29:PA2 / 2:PB12 6:PC6  10:PC10 14:PD11 18:PD15 22:PF3  26:PF7 30:PA3 / 3:PB13 7:PC7  11:PC11 15:PD12 19:PF0  23:PF4  27:PA0 31:PA4 / US0_RX       0:PA1  4:PA5   8:PB14 12:PC8  16:PD9  20:PD13 24:PF1 28:PF5 / 1:PA2  5:PB11  9:PB15 13:PC9  17:PD10 21:PD14 25:PF2 29:PF6 / 2:PA3  6:PB12 10:PC6  14:PC10 18:PD11 22:PD15 26:PF3 30:PF7 / 3:PA4  7:PB13 11:PC7  15:PC11 19:PD12 23:PF0  27:PF4 31:PA0 / US0_TX       0:PA0  4:PA4   8:PB13 12:PC7  16:PC11 20:PD12 24:PF0 28:PF4 / 1:PA1  5:PA5   9:PB14 13:PC8  17:PD9  21:PD13 25:PF1 29:PF5 / 2:PA2  6:PB11 10:PB15 14:PC9  18:PD10 22:PD14 26:PF2 30:PF6 / 3:PA3  7:PB12 11:PC6  15:PC10 19:PD11 23:PD15 27:PF3 31:PF7 / US1_CLK      0:PA2  4:PB11  8:PB15 12:PC9  16:PD10 20:PD14 24:PF2 28:PF6 / 1:PA3  5:PB12  9:PC6  13:PC10 17:PD11 21:PD15 25:PF3 29:PF7 / 2:PA4  6:PB13 10:PC7  14:PC11 18:PD12 22:PF0  26:PF4 30:PA0 / 3:PA5  7:PB14 11:PC8  15:PD9  19:PD13 23:PF1  27:PF5 31:PA1 / US1_CS       0:PA3  4:PB12  8:PC6  12:PC10 16:PD11 20:PD15 24:PF3 28:PF7 / 1:PA4  5:PB13  9:PC7  13:PC11 17:PD12 21:PF0  25:PF4 29:PA0 / 2:PA5  6:PB14 10:PC8  14:PD9  18:PD13 22:PF1  26:PF5 30:PA1 / 3:PB11 7:PB15 11:PC9  15:PD10 19:PD14 23:PF2  27:PF6 31:PA2 / US1_CTS      0:PA4  4:PB13  8:PC7  12:PC11 16:PD12 20:PF0  24:PF4 28:PA0 / 1:PA5  5:PB14  9:PC8  13:PD9  17:PD13 21:PF1  25:PF5 29:PA1 / 2:PB11 6:PB15 10:PC9  14:PD10 18:PD14 22:PF2  26:PF6 30:PA2 / 3:PB12 7:PC6  11:PC10 15:PD11 19:PD15 23:PF3  27:PF7 31:PA3 / US1_RTS      0:PA5  4:PB14  8:PC8  12:PD9  16:PD13 20:PF1  24:PF5 28:PA1 / 1:PB11 5:PB15  9:PC9  13:PD10 17:PD14 21:PF2  25:PF6 29:PA2 / 2:PB12 6:PC6  10:PC10 14:PD11 18:PD15 22:PF3  26:PF7 30:PA3 / 3:PB13 7:PC7  11:PC11 15:PD12 19:PF0  23:PF4  27:PA0 31:PA4 / US1_RX       0:PA1  4:PA5   8:PB14 12:PC8  16:PD9  20:PD13 24:PF1 28:PF5 / 1:PA2  5:PB11  9:PB15 13:PC9  17:PD10 21:PD14 25:PF2 29:PF6 / 2:PA3  6:PB12 10:PC6  14:PC10 18:PD11 22:PD15 26:PF3 30:PF7 / 3:PA4  7:PB13 11:PC7  15:PC11 19:PD12 23:PF0  27:PF4 31:PA0 / US1_TX       0:PA0  4:PA4   8:PB13 12:PC7  16:PC11 20:PD12 24:PF0 28:PF4 / 1:PA1  5:PA5   9:PB14 13:PC8  17:PD9  21:PD13 25:PF1 29:PF5 / 2:PA2  6:PB11 10:PB15 14:PC9  18:PD10 22:PD14 26:PF2 30:PF6 / 3:PA3  7:PB12 11:PC6  15:PC10 19:PD11 23:PD15 27:PF3 31:PF7

## EFM32LG280F64-QFP100
designator U?
EFM32 Leopard Gecko, M3 ARM Cortex CPU, 64 KB Flash, 32 KB RAM, 1.85 - 3.8 V Supply, 48 MHz Max Speed, -40 to 85 degC, 100-Pin LQFP, RoHS Compliant; Generic Part Number: EFM32LG280; PartNumber: EFM32LG280F64-QFP100; Flash (KB): 64; GPIO: 86; LESENSE: Y; Max Speed (MHz): 48; OPAMPS: 3; RAM (KB): 32; DatasheetVersion: Rev 1.00; PackageVersion: Rev. 98A0100QP043_03MAY2007; PackageReference: LQFP100; PackageDescription: 100-Pin Low rofile Quad Flat Package, Body 14 x 14 mm, Pitch 0.5 mm; Supplier 1: Digi-Key; Supplier Part Number 1: EFM32LG280F64-ND; Supplier 2: Mouser; Supplier Part Number 2: 904-EFM32LG280F64; ARM Cortex CPU: M3; Subcategory: EFM32 Leopard Gecko; Supply Voltage (V): 1.85 - 3.8; Mounting Technology: Surface Mount; ComponentLink1Description: Manufacturer URL; ComponentLink1URL: http://www.energymicro.com/; ComponentLink2Description: Datasheet; ComponentLink2URL: http://cdn.energymicro.com/dl/devices/pdf/d0107_efm32lg280_datasheet.pdf; ComponentLink3Description: Package Specification; ComponentLink3URL: http://cdn.energymicro.com/dl/devices/pdf/d0006_efm32g280_datasheet.pdf
footprint LQFP100 (Thin QFP, 100-Leads, Body 14x14mm, Pitch 0.5mm, IPC High Density)
pins: 1 PA0|I2C0SDA (io) "EBI_AD09#0/1/2, TIM0_CC0#0/1/4, LEU0_RX#4, I2C0_SDA#0, PRS_CH0#0, GPIO_EM4WU0", 2 PA1|I2C0SCL (io) "EBI_AD10#0/1/2, TIM0_CC1#0/1, I2C0_SCL#0, CMU_CLK1#0, PRS_CH1#0", 3 PA2 (io) "EBI_AD11#0/1/2, TIM0_CC2#0/1, CMU_CLK0#0, ETM_TD0#3", 4 PA3 (io) "EBI_AD12#0/1/2, TIM0_CDTI0#0, U0_TX#2, LES_ALTEX2#0, ETM_TD1#3", 5 PA4 (io) "EBI_AD13#0/1/2, TIM0_CDTI1#0, U0_RX#2, LES_ALTEX3#0, ETM_TD2#3", 6 PA5 (io) "EBI_AD14#0/1/2, TIM0_CDTI2#0, LEU1_TX#1, LES_ALTEX4#0, ETM_TD3#3", 7 PA6 (io) "EBI_AD15#0/1/2, LEU1_RX#1, ETM_TCLK#3, GPIO_EM4WU1", 8 IOVDD_0 (power) "Digital IO power supply 0.", 9 PB0 (io) "EBI_A16#0/1/2, TIM1_CC0#2", 10 PB1 (io) "EBI_A17#0/1/2, TIM1_CC1#2", 11 PB2 (io) "EBI_A18#0/1/2, TIM1_CC2#2", 12 PB3 (io) "EBI_A19#0/1/2, PCNT1_S0IN#1, US2_TX#1", 13 PB4 (io) "EBI_A20#0/1/2, PCNT1_S1IN#1, US2_RX#1", 14 PB5 (io) "EBI_A21#0/1/2, US2_CLK#1", 15 PB6 (io) "EBI_A22#0/1/2, US2_CS#1", 16 VSS (power) "Ground", 17 IOVDD_1 (power) "Digital IO power supply 1.", 18 PC0|US1TXmosi (io) "DAC0_OUT0ALT#0/OPAMP_OUT0ALT, ACMP0_CH0, EBI_A23#0/1/2, TIM0_CC1#4, PCNT0_S0IN#2, US0_TX#5, US1_TX#0, I2C0_SDA#4, LES_CH0#0, PRS_CH2#0", 19 PC1|US1RXmiso (io) "DAC0_OUT0ALT#1/OPAMP_OUT0ALT, ACMP0_CH1, EBI_A24#0/1/2, TIM0_CC2#4, PCNT0_S1IN#2, US0_RX#5, US1_RX#0, I2C0_SCL#4, LES_CH1#0, PRS_CH3#0", 20 PC2|US2TXmosi (io) "DAC0_OUT0ALT#2/OPAMP_OUT0ALT, ACMP0_CH2, EBI_A25#0/1/2, TIM0_CDTI0#4, US2_TX#0, LES_CH2#0", 21 PC3|US2RXmiso (io) "DAC0_OUT0ALT#3/OPAMP_OUT0ALT, ACMP0_CH3, EBI_NANDREn#0/1/2, TIM0_CDTI1#4, US2_RX#0, LES_CH3#0", 22 PC4|US2CLK|I2C1SDA (io) "DAC0_P0#0/OPAMP_P0, ACMP0_CH4, EBI_A26#0/1/2, TIM0_CDTI2#4, LETIM0_OUT0#3, PCNT1_S0IN#0, US2_CLK#0, I2C1_SDA#0, LES_CH4#0", 23 PC5|US2CS|I2C1SCL (io) "DAC0_N0#0/OPAMP_N0, ACMP0_CH5, EBI_NANDWEn#0/1/2, LETIM0_OUT1#3, PCNT1_S1IN#0, US2_CS#0, I2C1_SCL#0, LES_CH5#0", 24 US1CLK|LFXTALP|PB7 (io) "LFXTAL_P, TIM1_CC0#3, US0_TX#4, US1_CLK#0", 25 US1CS|LFXTALN|PB8 (io) "LFXTAL_N, TIM1_CC1#3, US0_RX#4, US1_CS#0", 26 PA7 (io) "EBI_CSTFT#0/1/2", 27 PA8 (io) "EBI_DCLK#0/1/2, TIM2_CC0#0", 28 PA9 (io) "EBI_DTEN#0/1/2, TIM2_CC1#0", 29 PA10 (io) "EBI_VSNC#0/1/2, TIM2_CC2#0", 30 PA11 (io) "EBI_HSNC#0/1/2", 31 IOVDD_2 (power) "Digital IO power supply 2.", 32 VSS (power) "Ground", 33 PA12 (io) "EBI_A00#0/1/2, TIM2_CC0#1", 34 PA13 (io) "EBI_A01#0/1/2, TIM2_CC1#1", 35 PA14 (io) "EBI_A02#0/1/2, TIM2_CC2#1", 36 RESETn (in) "Reset input.Active low, with internal pull-up.", 37 PB9 (io) "EBI_A03#0/1/2, U1_TX#2", 38 PB10 (io) "EBI_A04#0/1/2, U1_RX#2", 39 DAC0O0|PB11 (io) "DAC0_OUT0#0/OPAMP_OUT0, TIM1_CC2#3, LETIM0_OUT0#1, I2C1_SDA#1", 40 DAC0O1|PB12 (io) "DAC0_OUT1#0/OPAMP_OUT1, LETIM0_OUT1#1, I2C1_SCL#1", 41 AVDD_1 (power) "Analog power supply 1 .", 42 HFXTALP|PB13 (io) "HFXTAL_P, US0_CLK#4/5, LEU0_TX#1", 43 HFXTALN|PB14 (io) "HFXTAL_N, US0_CS#4/5, LEU0_RX#1", 44 IOVDD_3 (power) "Digital IO power supply 3.", 45 AVDD_0 (power) "Analog power supply 0.", 46 PD0 (io) "ADC0_CH0, DAC0_OUT0ALT#4/OPAMP_OUT0ALT, DAC0_OUT2#1/OPAMP_OUT2, PCNT2_S0IN#0, US1_TX#1", 47 PD1 (io) "ADC0_CH1, DAC0_OUT1ALT#4/OPAMP_OUT1ALT, TIM0_CC0#3, PCNT2_S1IN#0, US1_RX#1, DBG_SWO#2", 48 PD2 (io) "ADC0_CH2, EBI_A27#0/1/2, TIM0_CC1#3, US1_CLK#1, DBG_SWO#3", 49 PD3 (io) "ADC0_CH3, DAC0_N2#0/OPAMP_N2, TIM0_CC2#3, US1_CS#1, ETM_TD1#0/2", 50 LEU0TX|PD4 (io) "ADC0_CH4, DAC0_P2#0/OPAMP_P2, LEU0_TX#0, ETM_TD2#0/2", 51 LEU0RX|PD5 (io) "ADC0_CH5, DAC0_OUT2#0/OPAMP_OUT2, LEU0_RX#0, ETM_TD3#0/2", 52 PD6 (io) "ADC0_CH6, DAC0_P1#0/OPAMP_P1, TIM1_CC0#4, LETIM0_OUT0#0, PCNT0_S0IN#3, US1_RX#2, I2C0_SDA#1, LES_ALTEX0#0, ACMP0_O#2, ETM_TD0#0", 53 PD7 (io) "ADC0_CH7, DAC0_N1#0/OPAMP_N1, TIM1_CC1#4, LETIM0_OUT1#0, PCNT0_S1IN#3, US1_TX#2, I2C0_SCL#1, CMU_CLK0#2, LES_ALTEX1#0, ACMP1_O#2, ETM_TCLK#0", 54 BUVIN|PD8 (io) "BU_VIN, CMU_CLK1#1", 55 PC6|LEU1_TX (io) "ACMP0_CH6, EBI_A05#0/1/2, LEU1_TX#0, I2C0_SDA#2, LES_CH6#0, ETM_TCLK#2", 56 PC7|LEU1_RX (io) "ACMP0_CH7, EBI_A06#0/1/2, LEU1_RX#0, I2C0_SCL#2, LES_CH7#0, ETM_TD0#2", 57 VDD_DREG (power) "Power supply for on-chip voltage regulator.", 58 VSS (power) "Ground", 59 DECOUPLE "Decouple output for on-chip voltage regulator. An external capacitance of size CDECOUPLE is required at this pin", 60 PE0 (io) "EBI_A07#0/1/2, TIM3_CC0#1, PCNT0_S0IN#1, U0_TX#1, I2C1_SDA#2", 61 PE1 (io) "EBI_A08#0/1/2, TIM3_CC1#1, PCNT0_S1IN#1, U0_RX#1, I2C1_SCL#2", 62 BUVOUT|PE2 (io) "BU_VOUT, EBI_A09#0, TIM3_CC2#1, U1_TX#3, ACMP0_O#1", 63 BUSTAT|PE3 (io) "BU_STAT, EBI_A10#0, U1_RX#3, ACMP1_O#1", 64 PE4 (io) "EBI_A11#0/1/2, US0_CS#1", 65 PE5 (io) "EBI_A12#0/1/2, US0_CLK#1", 66 PE6 (io) "EBI_A13#0/1/2, US0_RX#1", 67 PE7 (io) "EBI_A14#0/1/2, US0_TX#1", 68 PC8 (io) "ACMP1_CH0, EBI_A15#0/1/2, TIM2_CC0#2, US0_CS#2, LES_CH8#0", 69 PC9 (io) "ACMP1_CH1, EBI_A09#1/2, TIM2_CC1#2, US0_CLK#2, LES_CH9#0, GPIO_EM4WU2", 70 PC10 (io) "ACMP1_CH2, EBI_A10#1/2, TIM2_CC2#2, US0_RX#2, LES_CH10#0", 71 PC11 (io) "ACMP1_CH3, EBI_ALE#1/2, US0_TX#2, LES_CH11#0", 72 PC12 (io) "DAC0_OUT1ALT#0/OPAMP_OUT1ALT, ACMP1_CH4, U1_TX#0, CMU_CLK0#1, LES_CH12#0", 73 PC13 (io) "DAC0_OUT1ALT#1/OPAMP_OUT1ALT, ACMP1_CH5, TIM0_CDTI0#1/3, TIM1_CC0#0, TIM1_CC2#4, PCNT0_S0IN#0, U1_RX#0, LES_CH13#0", 74 PC14 (io) "DAC0_OUT1ALT#2/OPAMP_OUT1ALT, ACMP1_CH6, TIM0_CDTI1#1/3, TIM1_CC1#0, PCNT0_S1IN#0, US0_CS#3, U0_TX#3, LES_CH14#0", 75 PC15 (io) "DAC0_OUT1ALT#3/OPAMP_OUT1ALT, ACMP1_CH7, TIM0_CDTI2#1/3, TIM1_CC2#0, US0_CLK#3, U0_RX#3, LES_CH15#0, DBG_SWO#1", 76 PF0|SWCLK (io) "TIM0_CC0#5, LETIM0_OUT0#2, US1_CLK#2, LEU0_TX#3, I2C0_SDA#5, DBG_SWCLK#0/1/2/3", 77 PF1|SWDO (io) "TIM0_CC1#5, LETIM0_OUT1#2, US1_CS#2, LEU0_RX#3, I2C0_SCL#5, DBG_SWDIO#0/1/2/3, GPIO_EM4WU3", 78 PF2|SWO (io) "EBI_ARDY#0/1/2, TIM0_CC2#5, LEU0_TX#4, ACMP1_O#0, DBG_SWO#0, GPIO_EM4WU4", 79 PF3 (io) "EBI_ALE#0, TIM0_CDTI0#2/5, PRS_CH0#1, ETM_TD3#1", 80 PF4 (io) "EBI_WEn#0/2, TIM0_CDTI1#2/5, PRS_CH1#1", 81 PF5 (io) "EBI_REn#0/2, TIM0_CDTI2#2/5, PRS_CH2#1", 82 IOVDD_5 (power) "Digital IO power supply 5.", 83 VSS (power) "Ground", 84 PF6|U0TX (io) "EBI_BL0#0/1/2, TIM0_CC0#2, U0_TX#0", 85 PF7|U0RX (io) "EBI_BL1#0/1/2, TIM0_CC1#2, U0_TX#0", 86 PF8 (io) "EBI_WEn#1, TIM0_CC2#2,  ETM_TCLK#1", 87 PF9 (io) "EBI_REn#1, ETM_TD0#1", 88 PD9 (io) "EBI_CS0#0/1/2", 89 PD10 (io) "EBI_CS1#0/1/2", 90 PD11 (io) "EBI_CS2#0/1/2", 91 PD12 (io) "EBI_CS3#0/1/2", 92 PE8 (io) "EBI_AD00#0/1/2, PCNT2_S0IN#1, PRS_CH3#1", 93 PE9 (io) "EBI_AD01#0/1/2, PCNT2_S1IN#1", 94 US0TXmosi/PE10 (io) "EBI_AD02#0/1/2, TIM1_CC0#1, US0_TX#0, BOOTLOADER_TX", 95 US0RXmiso/PE11 (io) "EBI_AD03#0/1/2, TIM1_CC1#1, US0_RX#0, LES_ALTEX5#0, BOOTLOADER_RX", 96 US0CLK/PE12 (io) "EBI_AD04#0/1/2, TIM1_CC2#1, US0_RX#3, US0_CLK#0, I2C0_SDA#6, CMU_CLK1#2, LES_ALTEX6#0", 97 US0CS/PE13 (io) "EBI_AD05#0/1/2, US0_TX#3, US0_CS#0, I2C0_SCL#6, LES_ALTEX7#0, ACMP0_O#0, GPIO_EM4WU5", 98 PE14 (io) "EBI_AD06#0/1/2, TIM3_CC0#0, LEU0_TX#2", 99 PE15 (io) "EBI_AD07#0/1/2, TIM3_CC1#0, LEU0_RX#2", 100 PA15 (io) "EBI_AD08#0/1/2, TIM3_CC2#0"
text: #                 L0   L1   L2   L3   L4   L5   L6 / ACMP0_O          PE13 PE2  PD6 / ACMP0_CH0        PC0 / ACMP0_CH1        PC1 / ACMP0_CH2        PC2 / ACMP0_CH3        PC3 / ACMP0_CH4        PC4 / ACMP0_CH5        PC5 / ACMP0_CH6        PC6 / ACMP0_CH7        PC7 / ACMP0_O          PE13 PE2  PD6 / ACMP1_CH0        PC8 / ACMP1_CH1        PC9 / ACMP1_CH2        PC10 / ACMP1_CH3        PC11 / ACMP1_CH4        PC12 / ACMP1_CH5        PC13 / ACMP1_CH6        PC14 / ACMP1_CH7        PC15 / ACMP1_O          PF2  PE3  PD7 / ADC0_CH0         PD0 / ADC0_CH1         PD1 / ADC0_CH2         PD2 / ADC0_CH3         PD3 / ADC0_CH4         PD4 / ADC0_CH5         PD5 / ADC0_CH6         PD6 / ADC0_CH7         PD7 / BOOT_RX          PE11 / BOOT_TX          PE10 / BU_STAT          PE3 / BU_VIN           PD8 / BU_VOUT          PE2 / CMU_CLK0         PA2  PC12 PD7 / CMU_CLK1         PA1  PD8  PE12 / OPAMP_N0         PC5 / OPAMP_N1         PD7 / OPAMP_N2         PD3 / DAC0_OUT0        / / OPAMP_OUT0       PB11 / DAC0_OUT0ALT     / / OPAMP_OUT0ALT    PC0  PC1  PC2  PC3  PD0 / DAC0_OUT1        / / OPAMP_OUT1       PB12 / DAC0_OUT1ALT     / / OPAMP_OUT1ALT    PC12 PC13 PC14 PC15 PD1 / OPAMP_OUT2       PD5  PD0 / OPAMP_P0         PC4 / OPAMP_P1         PD6 / OPAMP_P2         PD4 / DBG_SWCLK        PF0  PF0  PF0  PF0 / DBG_SWDIO        PF1  PF1  PF1  PF1 / DBG_SWO          PF2  PC15 PD1  PD2 /; #                 L0   L1   L2   L3   L4   L5   L6 / EBI_A00          PA12 PA12 PA12 / EBI_A01          PA13 PA13 PA13 / EBI_A02          PA14 PA14 PA14 / EBI_A03          PB9  PB9  PB9 / EBI_A04          PB10 PB10 PB10 / EBI_A05          PC6  PC6  PC6 / EBI_A06          PC7  PC7  PC7 / EBI_A07          PE0  PE0  PE0 / EBI_A08          PE1  PE1  PE1 / EBI_A09          PE2  PC9  PC9 / EBI_A10          PE3  PC10 PC10 / EBI_A11          PE4  PE4  PE4 / EBI_A12          PE5  PE5  PE5 / EBI_A13          PE6  PE6  PE6 / EBI_A14          PE7  PE7  PE7 / EBI_A15          PC8  PC8  PC8 / EBI_A16          PB0  PB0  PB0 / EBI_A17          PB1  PB1  PB1 / EBI_A18          PB2  PB2  PB2 / EBI_A19          PB3  PB3  PB3 / EBI_A20          PB4  PB4  PB4 / EBI_A21          PB5  PB5  PB5 / EBI_A22          PB6  PB6  PB6 / EBI_A23          PC0  PC0  PC0 / EBI_A24          PC1  PC1  PC1 / EBI_A25          PC2  PC2  PC2 / EBI_A26          PC4  PC4  PC4 / EBI_A27          PD2  PD2  PD2 / EBI_AD00         PE8  PE8  PE8 / EBI_AD01         PE9  PE9  PE9 / EBI_AD02         PE10 PE10 PE10 / EBI_AD03         PE11 PE11 PE11 / EBI_AD04         PE12 PE12 PE12 / EBI_AD05         PE13 PE13 PE13 / EBI_AD06         PE14 PE14 PE14 / EBI_AD07         PE15 PE15 PE15 / EBI_AD08         PA15 PA15 PA15 / EBI_AD09         PA0  PA0  PA0 / EBI_AD10         PA1  PA1  PA1 / EBI_AD11         PA2  PA2  PA2 / EBI_AD12         PA3  PA3  PA3 / EBI_AD13         PA4  PA4  PA4 / EBI_AD14         PA5  PA5  PA5 / EBI_AD15         PA6  PA6  PA6 / EBI_ALE          PF3  PC11 PC11 / EBI_ARDY         PF2  PF2  PF2 / EBI_BL0          PF6  PF6  PF6 / EBI_BL1          PF7  PF7  PF7 / EBI_CS0          PD9  PD9  PD9 / EBI_CS1          PD10 PD10 PD10 / EBI_CS2          PD11 PD11 PD11 / EBI_CS3          PD12 PD12 PD12 / EBI_CSTFT        PA7  PA7  PA7 / EBI_DCLK         PA8  PA8  PA8 / EBI_DTEN         PA9  PA9  PA9 / EBI_HSNC         PA11 PA11 PA11 / EBI_NANDREn      PC3  PC3  PC3 / EBI_NANDWEn      PC5  PC5  PC5 / EBI_REn          PF5  PF9  PF5 / EBI_VSNC         PA10 PA10 PA10 / EBI_WEn          PF4  PF8  PF4 /; #                 L0   L1   L2   L3   L4   L5   L6 / ETM_TCLK         PD7  PF8  PC6  PA6 / ETM_TD0          PD6  PF9  PC7  PA2 / ETM_TD1          PD3       PD3  PA3 / ETM_TD2          PD4       PD4  PA4 / ETM_TD3          PD5  PF3  PD5  PA5 / GPIO_EM4WU0      PA0 / GPIO_EM4WU1      PA6 / GPIO_EM4WU2      PC9 / GPIO_EM4WU3      PF1 / GPIO_EM4WU4      PF2 / GPIO_EM4WU5      PE13 / HFXTAL_N         PB14 / HFXTAL_P         PB13 / I2C0_SCL         PA1  PD7  PC7       PC1  PF1  PE13 / I2C0_SDA         PA0  PD6  PC6       PC0  PF0  PE12 / I2C1_SCL         PC5  PB12 PE1 / I2C1_SDA         PC4  PB11 PE0 / LES_ALTEX0       PD6 / LES_ALTEX1       PD7 / LES_ALTEX2       PA3 / LES_ALTEX3       PA4 / LES_ALTEX4       PA5 / LES_ALTEX5       PE11 / LES_ALTEX6       PE12 / LES_ALTEX7       PE13 / LES_CH0          PC0 / LES_CH1          PC1 / LES_CH2          PC2 / LES_CH3          PC3 / LES_CH4          PC4 / LES_CH5          PC5 / LES_CH6          PC6 / LES_CH7          PC7 / LES_CH8          PC8 / LES_CH9          PC9 / LES_CH10         PC10 / LES_CH11         PC11 / LES_CH12         PC12 / LES_CH13         PC13 / LES_CH14         PC14 / LES_CH15         PC15 / LETIM0_OUT0      PD6  PB11 PF0  PC4 / LETIM0_OUT1      PD7  PB12 PF1  PC5 / LEU0_RX          PD5  PB14 PE15 PF1  PA0 / LEU0_TX          PD4  PB13 PE14 PF0  PF2 / LEU1_RX          PC7  PA6 / LEU1_TX          PC6  PA5 / LFXTAL_N         PB8 / LFXTAL_P         PB7 / PCNT0_S0IN       PC13 PE0  PC0  PD6 / PCNT0_S1IN       PC14 PE1  PC1  PD7 / PCNT1_S0IN       PC4  PB3 / PCNT1_S1IN       PC5  PB4 / PCNT2_S0IN       PD0  PE8 / PCNT2_S1IN       PD1  PE9 / PRS_CH0          PA0  PF3 / PRS_CH1          PA1  PF4 / PRS_CH2          PC0  PF5 / PRS_CH3          PC1  PE8 /; #                 L0   L1   L2   L3   L4   L5   L6 / TIM0_CC0         PA0  PA0  PF6  PD1  PA0  PF0 / TIM0_CC1         PA1  PA1  PF7  PD2  PC0  PF1 / TIM0_CC2         PA2  PA2  PF8  PD3  PC1  PF2 / TIM0_CDTI0       PA3  PC13 PF3  PC13 PC2  PF3 / TIM0_CDTI1       PA4  PC14 PF4  PC14 PC3  PF4 / TIM0_CDTI2       PA5  PC15 PF5  PC15 PC4  PF5 / TIM1_CC0         PC13 PE10 PB0  PB7  PD6 / TIM1_CC1         PC14 PE11 PB1  PB8  PD7 / TIM1_CC2         PC15 PE12 PB2  PB11 PC13 / TIM2_CC0         PA8  PA12 PC8 / TIM2_CC1         PA9  PA13 PC9 / TIM2_CC2         PA10 PA14 PC10 / TIM3_CC0         PE14 PE0 / TIM3_CC1         PE15 PE1 / TIM3_CC2         PA15 PE2 / U0_RX            PF7  PE1  PA4  PC15 / U0_TX            PF6  PE0  PA3  PC14 / U1_RX            PC13 PB10 PE3 / U1_TX            PC12 PB9  PE2 / US0_CLK          PE12 PE5  PC9  PC15 PB13 PB13 / US0_CS           PE13 PE4  PC8  PC14 PB14 PB14 / US0_RX           PE11 PE6  PC10 PE12 PB8  PC1 / US0_TX           PE10 PE7  PC11 PE13 PB7  PC0 / US1_CLK          PB7  PD2  PF0 / US1_CS           PB8  PD3  PF1 / US1_RX           PC1  PD1  PD6 / US1_TX           PC0  PD0  PD7 / US2_CLK          PC4  PB5 / US2_CS           PC5  PB6 / US2_RX           PC3  PB4 / US2_TX           PC2  PB3 /

## EP4CE6
designator U?
Quad buffer/line driver 3-state; Published: 8-Jun-2000; LatestRevisionDate: 13-Apr-2006; LatestRevisionNote: IPC-7351 Footprint Added.; DatasheetVersion: Oct-1993; PackageVersion: May-1998; PackageReference: SO16; Publisher: Altium Limited; PackageDescription: 16-Pin Small Outline Integrated Circuit 1.27 mm Pitch; Code_IPC: SOIC127P600-16; ComponentLink1Description: Manufacturer Link; ComponentLink1URL: http://www.st.com/; ComponentLink2Description: Datasheet; ComponentLink2URL: http://www.st.com/stonline/products/literature/ds/7731/m74hc4053.pdf
footprint EQFP144 (Thin QFP, 144-Leads, Body 20x20mm, Pitch 0.5mm, IPC Low Density)
pins: 1 IO (io), 2 IO (io), 3 IO (io), 4 IO (io), 5 VCCINT (power), 6 IO, DIFFIO_L1n (DATA1, ASDO) (io), 7 IO, VREFB1N0 (io), 8 IO, DIFFIO_L2p (FLASH_nCE, nCSO) (io), 9 nSTATUS (io), 10 IO, DIFFIO_L4p, (DQS0L/CQ1L,DPCLK0) (io), 11 IO, DIFFIO_L4n (io), 12 DCLK (io), 13 IO (DATA0) (io), 14 nCONFIG (in), 15 TDI (in), 16 TCK (in), 17 VCCIO1 (power), 18 TMS (in), 19 GND (power), 20 TDO (out), 21 nCE (in), 22 GND (power), 23 CLK1, DIFFCLK_0n (in), 24 CLK2, DIFFCLK_1p (in), 25 CLK3, DIFFCLK_1n (in), 26 VCCIO2 (power), 27 GND (power), 28 IO, DIFFIO_L6n (io), 29 VCCINT (power), 30 IO, DIFFIO_L8p, (DQS1L/CQ1L#,DPCLK1) (io), 31 IO, VREFB2N0 (io), 32 IO, RUP1 (io), 33 IO, RDN1 (io), 34 IO (io), 35 VCCA1 (power), 36 GNDA1 (power), 37 VCCD_PLL1 (power), 38 IO, DIFFIO_B1p (io), 39 IO, DIFFIO_B1n (io), 40 VCCIO3 (power), 41 GND (power), 42 IO, (DQS1B/CQ1B#,DPCLK2) (io), 43 IO, PLL1_CLKOUTp (io), 44 IO, PLL1_CLKOUTn (io), 45 VCCINT (power), 46 IO, VREFB3N0 (io), 47 VCCIO3 (power), 48 GND (power), 49 IO, DIFFIO_B9p, DQ1B (io), 50 IO, DIFFIO_B9n, DQ1B (io), 51 IO, DIFFIO_B10p, DQ1B (io), 52 IO, DIFFIO_B11p (io), 53 IO, DIFFIO_B11n (io), 54 IO, DIFFIO_B12p (io), 55 IO, DIFFIO_B12n (io), 56 VCCIO4 (power), 57 GND (power), 58 IO, DIFFIO_B15p, DQ1B (io), 59 IO, DIFFIO_B16p, DQ1B (io), 60 IO, DIFFIO_B16n, DQ1B (io), 61 VCCINT (power), 62 VCCIO4 (power), 63 GND (power), 64 IO (io), 65 IO, VREFB4N0 (io), 66 IO, RUP2, DQ1B (io), 67 IO, RDN2, DQ1B (io), 68 IO, (DQS0B/CQ1B,DPCLK3) (io), 69 IO (io), 70 IO, DIFFIO_B21p (io), 71 IO, DIFFIO_B21n (io), 72 IO, DIFFIO_B22p (io), 73 IO (io), 74 IO (io), 75 IO (io), 76 RUP3, IO (io), 77 RDN3, IO (io), 78 VCCINT (power), 79 DIFFIO_R10n, IO (io), 80 VREFB5N0, IO (io), 81 VCCIO5 (power), 82 GND (power), 83 IO (io), 84 DIFFIO_R8n, IO (io), 85 DIFFIO_R8p, (DQS1R/CQ1R#,DPCLK4), IO (io), 86 DIFFIO_R7n (DEV_OE), IO (io), 87 DIFFIO_R7p (DEV_CLRn), IO (io), 88 CLK7, DIFFCLK_3n (in), 89 CLK6, DIFFCLK_3p (in), 90 CLK5, DIFFCLK_2n (in), 91 CLK4, DIFFCLK_2p (in), 92 CONF_DONE (io), 93 VCCIO6 (power), 94 MSEL0 (in), 95 GND (power), 96 MSEL1 (in), 97 MSEL2 (in), 98 DIFFIO_R4n (INIT_DONE), IO (io), 99 DIFFIO_R4p (CRC_ERROR), IO (io), 100 IO (io), 101 DIFFIO_R3n (nCEO), IO (io), 102 VCCINT (power), 103 DIFFIO_R3p (CLKUSR), IO (io), 104 (DQS0R/CQ1R,DPCLK5), IO (io), 105 VREFB6N0, IO (io), 106 DIFFIO_R1n, IO (io), 107 VCCA2 (power), 108 GNDA2 (power), 109 VCCD_PLL2 (power), 110 DIFFIO_T20p, (DQS0T/CQ1T,DPCLK6), IO (io), 111 DIFFIO_T19p, IO (io), 112 PLL2_CLKOUTn, IO (io), 113 PLL2_CLKOUTp, IO (io), 114 RUP4, DQ1T, IO (io), 115 RDN4, DQ1T, IO (io), 116 VCCINT (power), 117 VCCIO7 (power), 118 GND (power), 119 VREFB7N0, IO (io), 120 DIFFIO_T16n, DQ1T, IO (io), 121 DIFFIO_T16p, IO (io), 122 VCCIO7 (power), 123 GND (power), 124 DIFFIO_T13p, IO (io), 125 IO (io), 126 DIFFIO_T12n, IO (io), 127 DIFFIO_T12p, IO (io), 128 DIFFIO_T11n, IO (io), 129 DIFFIO_T11p, IO (io), 130 VCCIO8 (power), 131 GND (power), 132 DIFFIO_T10n (DATA2), DQ1T, IO (io), 133 DIFFIO_T10p (DATA3), DQ1T, IO (io), 134 VCCINT (power), 135 DIFFIO_T8n, DQ1T, IO (io), 136 VREFB8N0, IO (io), 137 (DATA5), DQ1T, IO (io), 138 (DATA6), IO (io), 139 VCCIO8 (power), 140 GND (power), 141 DIFFIO_T5p, IO (io), 142 DIFFIO_T2p, (DQS1T/CQ1T#,DPCLK7), IO (io), 143 DIFFIO_T1n, DQ1T, IO (io), 144 DIFFIO_T1p, DM1T, IO (io), 145 GNDPAD (power)
text: Bank 1; Bank 5; Bank 2; Bank 6; Bank 3; Bank 7; Bank 4; Bank 8

## EPM240T100C5N
designator U?
MAX II 3.3/2.5V CPLD, 80 IOs, 240 Logic Elements, 100-Pin Plastic TQFP, Commercial Temperature, Speed Grade 5, Pb-Free; Note: Each set of VCCIO pins can be connected to 3.3V, 2.5V, 1.8V, or 1.5V.; Note: All VCCINT pins must be connected to either 3.3V or 2.5V (but not a combination of both).; Published: 4-Mar-2005; LatestRevisionDate: 13-Apr-2006; LatestRevisionNote: IPC-7351 Footprint Added.; DatasheetVersion: ver1.8, Jul-2006; PackageVersion: ver14.3, Jul-2006; PackageReference: TQFP100; Publisher: Altium Limited; PackageDescription: 100-Pin Plastic Thin Quad Flat Pack (TQFP100); Code_JEDEC: MS-026-AED; ComponentLink1Description: Manufacturer Link; ComponentLink1URL: http://www.altera.com/products/devices/cpld/max2/mx2-index.jsp; ComponentLink2Description: Handbook; ComponentLink2URL: http://www.altera.com/literature/hb/max2/max2_mii5v1.pdf; ComponentLink3Description: Packaging Specification; ComponentLink3URL: http://www.altera.com/literature/ds/dspkg.pdf
footprint TQFP100 (100-Pin Thin Quad Flat Pack 0.5 mm Pitch, IPC Low Density)
pins: 1 IO (io), 2 IO (io), 3 IO (io), 4 IO (io), 5 IO (io), 6 IO (io), 7 IO (io), 8 IO (io), 9 VCCIO1 (power), 10 GNDIO (power), 11 GNDINT (power), 12 IO/GCLK0 (io), 13 VCCINT (power), 14 IO/GCLK1 (io), 15 IO (io), 16 IO (io), 17 IO (io), 18 IO (io), 19 IO (io), 20 IO (io), 21 IO (io), 22 TMS (in), 23 TDI (in), 24 TCK (in), 25 TDO (out), 26 IO (io), 27 IO (io), 28 IO (io), 29 IO (io), 30 IO (io), 31 VCCIO1 (power), 32 GNDIO (power), 33 IO (io), 34 IO (io), 35 IO (io), 36 IO (io), 37 GNDINT (power), 38 IO (io), 39 VCCINT (power), 40 IO (io), 41 IO (io), 42 IO (io), 43 IO/DEV_OE (io), 44 IO/DEV_CLRn (io), 45 VCCIO1 (power), 46 GNDIO (power), 47 IO (io), 48 IO (io), 49 IO (io), 50 IO (io), 51 IO (io), 52 IO (io), 53 IO (io), 54 IO (io), 55 IO (io), 56 IO (io), 57 IO (io), 58 IO (io), 59 VCCIO2 (power), 60 GNDIO (power), 61 IO (io), 62 IO/GCLK2 (io), 63 VCCINT (power), 64 IO/GCLK3 (io), 65 GNDINT (power), 66 IO (io), 67 IO (io), 68 IO (io), 69 IO (io), 70 IO (io), 71 IO (io), 72 IO (io), 73 IO (io), 74 IO (io), 75 IO (io), 76 IO (io), 77 IO (io), 78 IO (io), 79 GNDIO (power), 80 VCCIO2 (power), 81 IO (io), 82 IO (io), 83 IO (io), 84 IO (io), 85 IO (io), 86 IO (io), 87 IO (io), 88 VCCINT (power), 89 IO (io), 90 GNDINT (power), 91 IO (io), 92 IO (io), 93 GNDIO (power), 94 VCCIO2 (power), 95 IO (io), 96 IO (io), 97 IO (io), 98 IO (io), 99 IO (io), 100 IO (io)
text: BANK 1; BANK 2

## ESP8266 ESP_12
designator U?
ESP8266 ESP-12; IC: ESP8266-EX; Vendor: Ai-thinker; LatestReviewer: Zion Blue; Published: 14-Apr-2015; Publisher: Cynetik Group; LatestRevisionData: 14-Apr-2015; LatestRevisionNote: Include 3D body and Footprint
footprint ESP8266 ESP_12 (Footprint not found)
pins: 1 ~{RST} "Reset", 2 ADC/TOUT "ADC Input Or TOUT Output", 3 EN "Chip enable", 4 GPIO16/~{WAKE} "GPIO16 or Deep-Sleep Wakeup", 5 GPIO14/HSPICLK "GPIO14 or SPI CLK", 6 GPIO12/HSPIQ "GPIO12 or SPIQ", 7 GPIO13/HSPID/CTS0/RXD2 "GPIO13 or SPID", 8 VDD "Power supply", 9 GND "Power ground", 10 GPIO15/HSPICS/RTS0/TXD2 "GPIO15 or SPICS", 11 GPIO2/TXD1 "GPIO2 or TX", 12 GPIO0/SPICS2 "GPIO0 or SPICS2", 13 GPIO4 "GPIO5", 14 GPIO5 "GPIO4", 15 GPIO3/RXD0 "GPIO3 or UART RXD", 16 GPIO1/SPICS1/TXD0 "GPIO1 or UART TXD"

## F12A-6S-0.5SH
designator X?
footprint F12A-6S-0.5SH
pins: 0 pad, 1, 2, 3, 4, 5, 6

## F12A-8S-1.0SH
designator X?
footprint F12A-8S-1.0SH
pins: 0 pad, 1, 2, 3, 4, 5, 6, 7, 8

## FM31XX
designator ?
pins: 1 CNT1, 2 CNT2, 3 A0, 4 A1, 5 CAL/PFO, 6 ~{RST}, 7 GND, 8 BAT, 9 PFI, 10 X1, 11 X2, 12 SDA, 13 SCL, 14 VCC

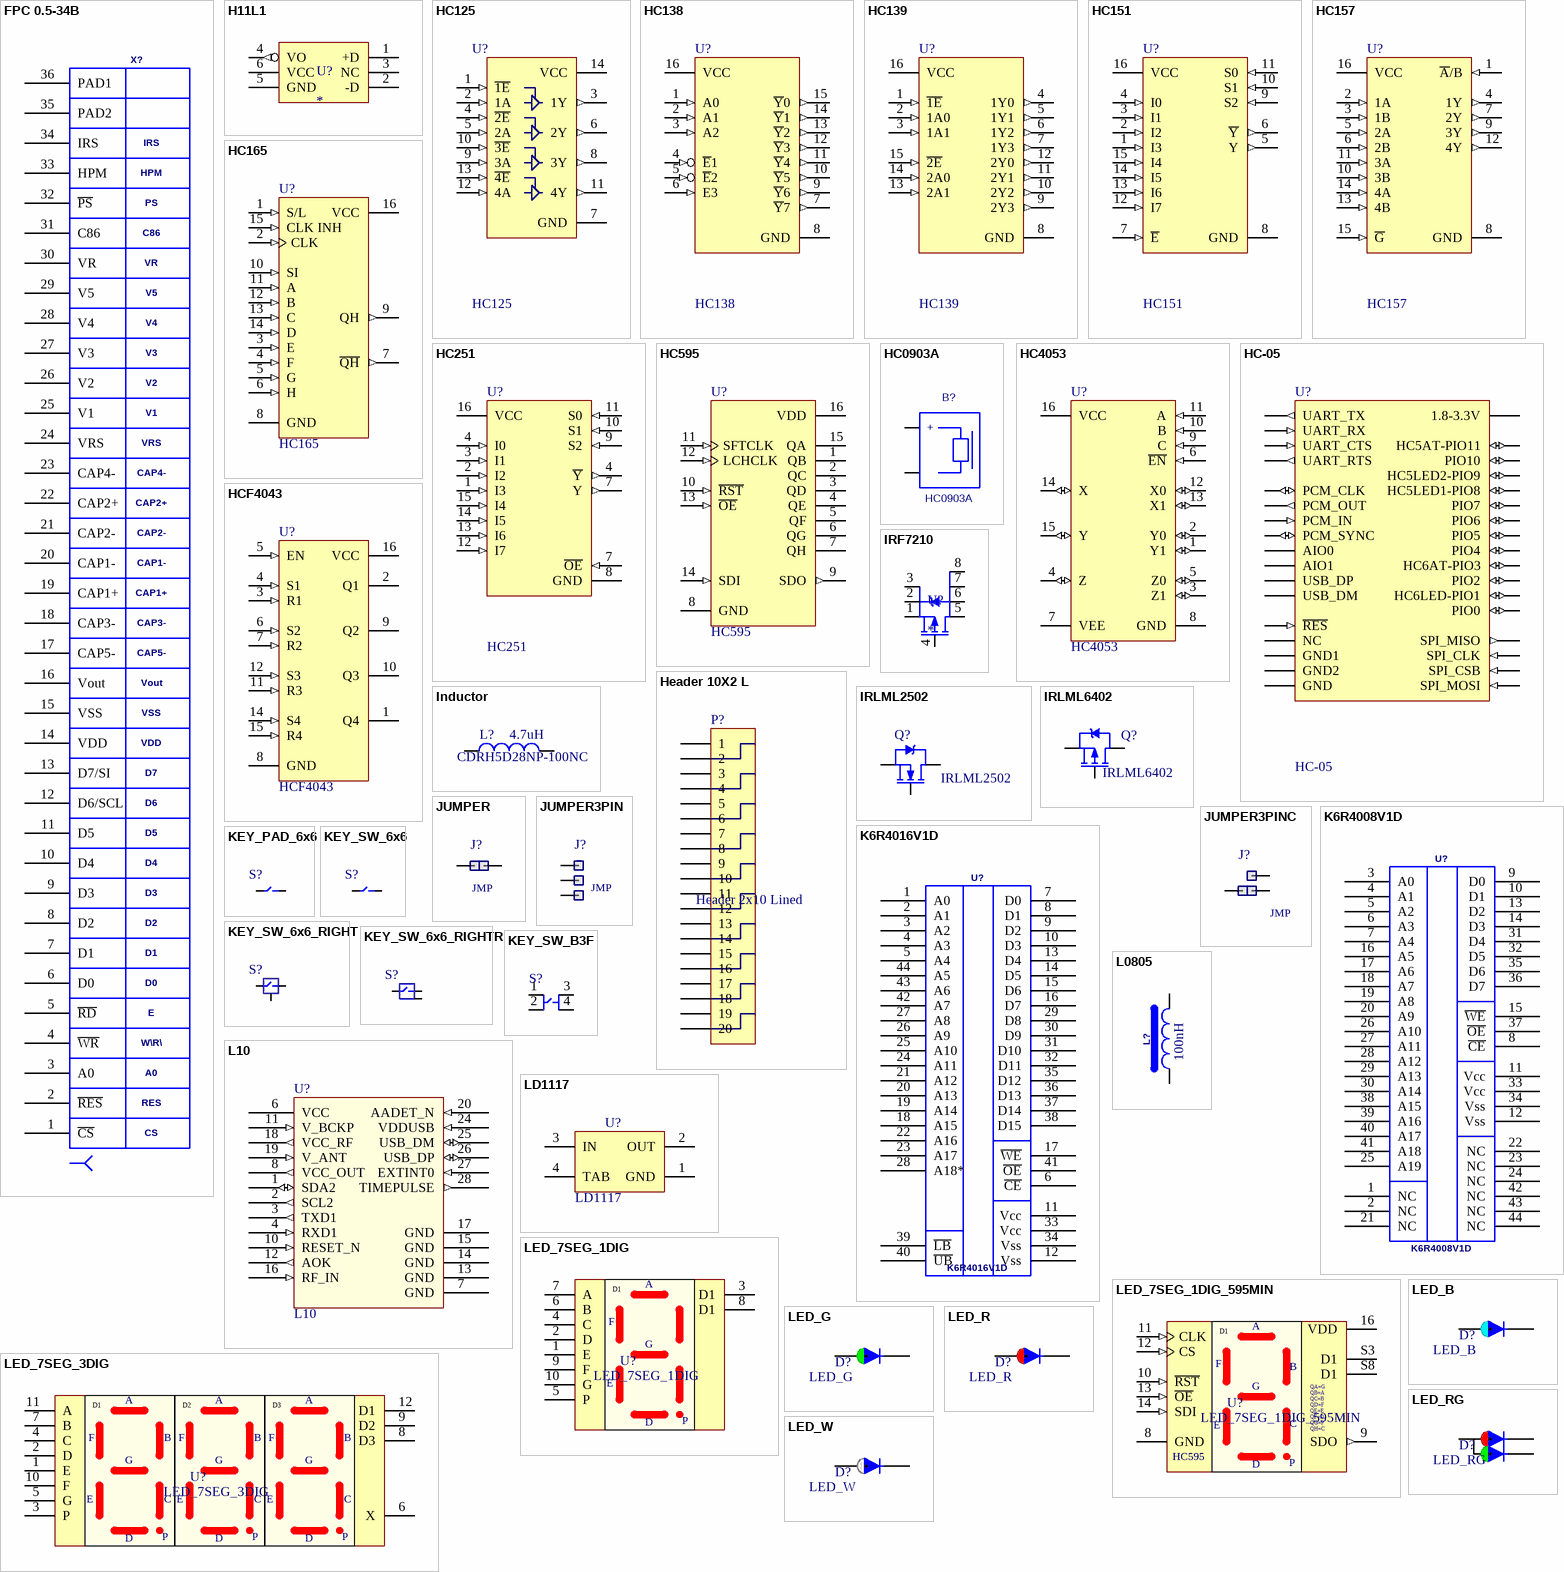
[diagram p2: symbols FPC 0.5-34B to LED_W]

## FPC 0.5-34B
designator X?  (value not drawn)
Type: FPC 0.5-34B
footprint FPC 0.5-34B
pins: 1 ~{CS}, 2 ~{RES}, 3 A0, 4 ~{WR}, 5 ~{RD}, 6 D0, 7 D1, 8 D2, 9 D3, 10 D4, 11 D5, 12 D6/SCL, 13 D7/SI, 14 VDD, 15 VSS, 16 Vout, 17 CAP5-, 18 CAP3-, 19 CAP1+, 20 CAP1-, 21 CAP2-, 22 CAP2+, 23 CAP4-, 24 VRS, 25 V1, 26 V2, 27 V3, 28 V4, 29 V5, 30 VR, 31 C86, 32 ~{PS}, 33 HPM, 34 IRS, 35 PAD2, 36 PAD1
text: PS; D7; D6; E; RES; CS

## H11L1
designator U?
Optocoupler
footprint DIP6 (Footprint not found)
pins: 1 +D, 2 -D, 3 NC, 4 VO (out), 5 GND (power), 6 VCC (power)